# Altium schematic symbol library ColdFire MCU.SchLib: 117 symbols (part 4 of 7)
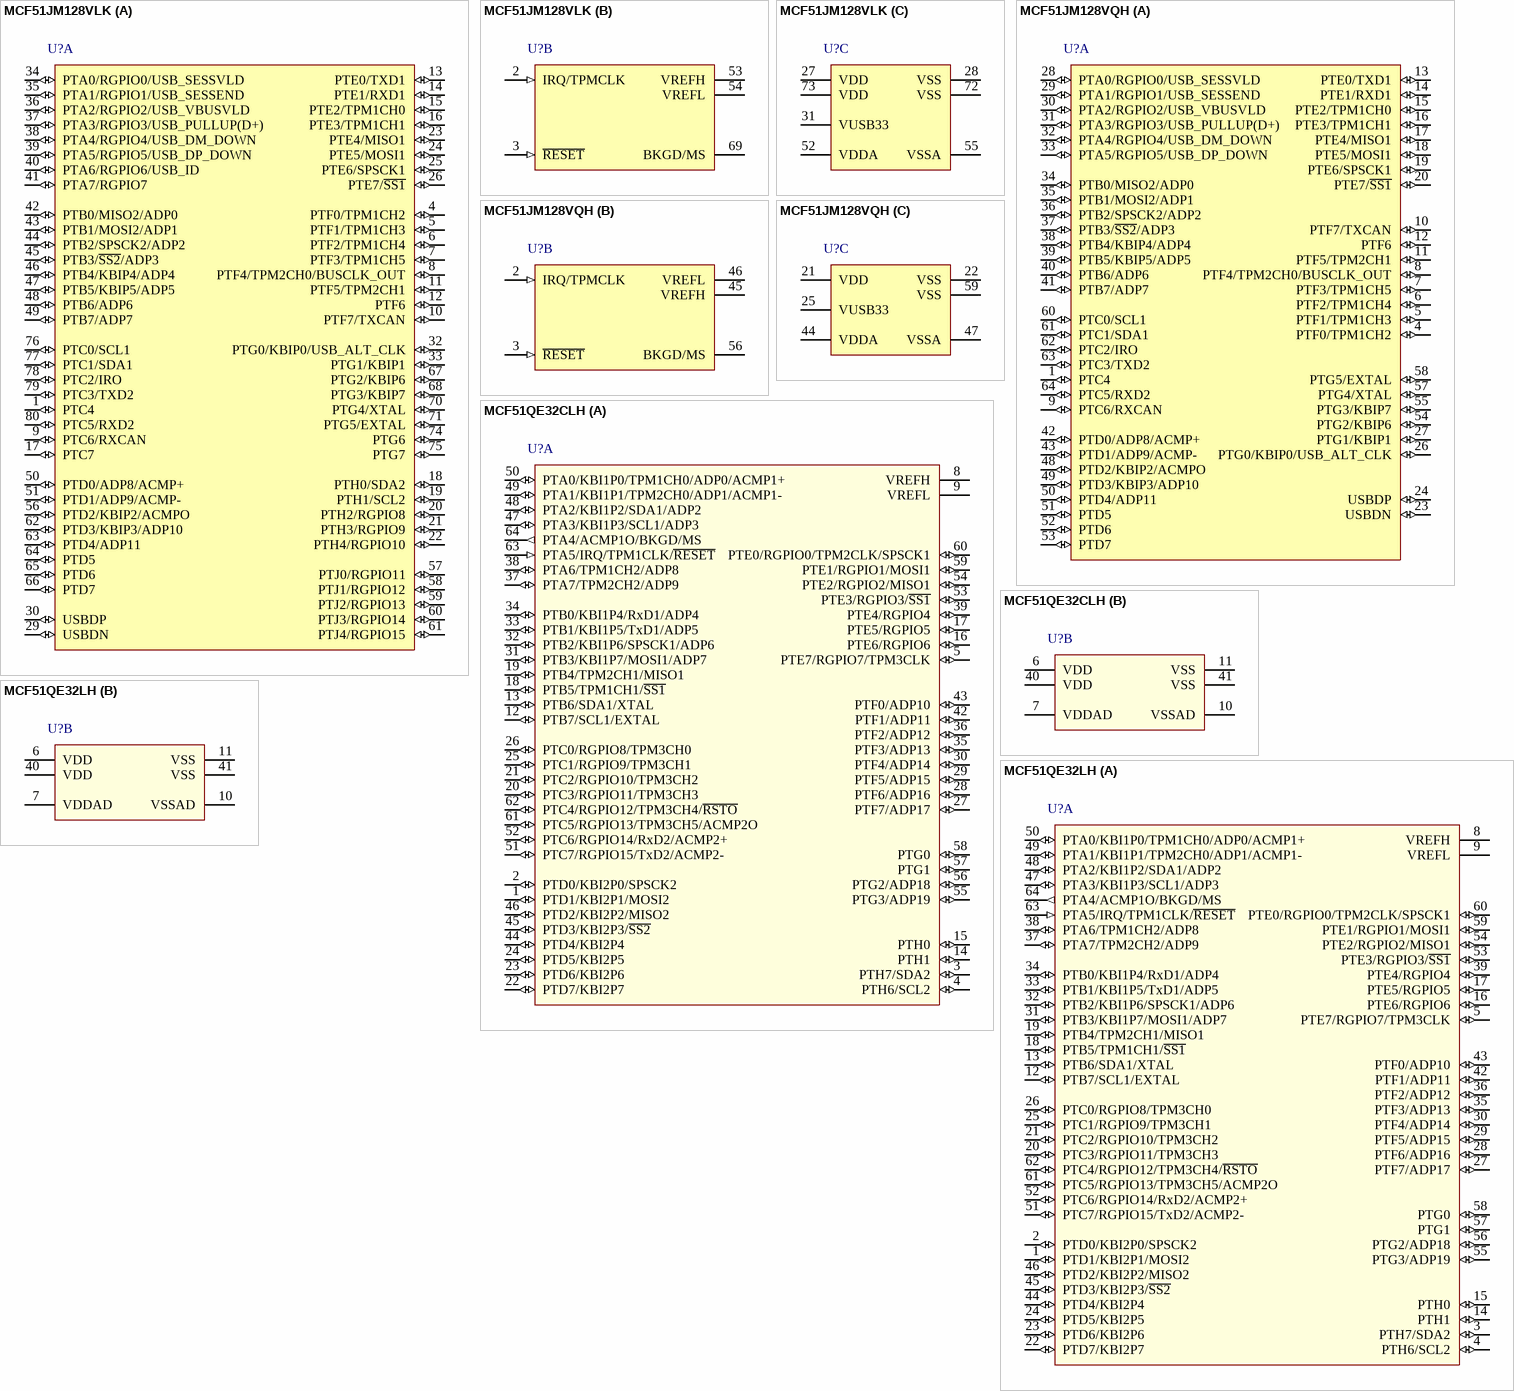
[diagram p34: symbols MCF51JM128VLK to MCF51QE32LH]

## MCF51QE32LH
designator U?
MCF51QE32 ColdFire V1 Microcontroller, 32-Bit, 32KB Flash, 8KB RAM, 0°C to 70°C, 64-Pin LQFP; DatasheetVersion: rev7, Oct-2008; PackageVersion: rev6, Mar-2011; PackageReference: 840F-02; PackageDescription: 64-Pin Thin Quad Flat Pack, 10 x 10 mm Body, 0.5 mm Pitch; ComponentLink1Description: Manufacturer URL; ComponentLink1URL: http://www.freescale.com/; ComponentLink2Description: Datasheet; ComponentLink2URL: http://cache.freescale.com/files/32bit/doc/data_sheet/MCF51QE128.pdf?fpsp=1&WT_TYPE=Data%20Sheets&WT_VENDOR=FREESCALE&WT_FILE_FORMAT=pdf&WT_ASSET=Documentation
footprint 840F-02_N (Thin QFP, 64-Leads, Body 10x10mm, Pitch 0.5mm, IPC Medium Density)
footprint 840F-02_L (Thin QFP, 64-Leads, Body 10x10mm, Pitch 0.5mm, IPC High Density)
footprint 840F-02_M (Thin QFP, 64-Leads, Body 10x10mm, Pitch 0.5mm, IPC Low Density)
part A pins: 1 PTD1/KBI2P1/MOSI2 (io), 2 PTD0/KBI2P0/SPSCK2 (io), 3 PTH7/SDA2 (io), 4 PTH6/SCL2 (io), 5 PTE7/RGPIO7/TPM3CLK (io), 8 VREFH, 9 VREFL, 12 PTB7/SCL1/EXTAL (io), 13 PTB6/SDA1/XTAL (io), 14 PTH1 (io), 15 PTH0 (io), 16 PTE6/RGPIO6 (io), 17 PTE5/RGPIO5 (io), 18 PTB5/TPM1CH1/~{SS1} (io), 19 PTB4/TPM2CH1/MISO1 (io), 20 PTC3/RGPIO11/TPM3CH3 (io), 21 PTC2/RGPIO10/TPM3CH2 (io), 22 PTD7/KBI2P7 (io), 23 PTD6/KBI2P6 (io), 24 PTD5/KBI2P5 (io), 25 PTC1/RGPIO9/TPM3CH1 (io), 26 PTC0/RGPIO8/TPM3CH0 (io), 27 PTF7/ADP17 (io), 28 PTF6/ADP16 (io), 29 PTF5/ADP15 (io), 30 PTF4/ADP14 (io), 31 PTB3/KBI1P7/MOSI1/ADP7 (io), 32 PTB2/KBI1P6/SPSCK1/ADP6 (io), 33 PTB1/KBI1P5/TxD1/ADP5 (io), 34 PTB0/KBI1P4/RxD1/ADP4 (io), 35 PTF3/ADP13 (io), 36 PTF2/ADP12 (io), 37 PTA7/TPM2CH2/ADP9 (io), 38 PTA6/TPM1CH2/ADP8 (io), 39 PTE4/RGPIO4 (io), 42 PTF1/ADP11 (io), 43 PTF0/ADP10 (io), 44 PTD4/KBI2P4 (io), 45 PTD3/KBI2P3/~{SS2} (io), 46 PTD2/KBI2P2/MISO2 (io), 47 PTA3/KBI1P3/SCL1/ADP3 (io), 48 PTA2/KBI1P2/SDA1/ADP2 (io), 49 PTA1/KBI1P1/TPM2CH0/ADP1/ACMP1- (io), 50 PTA0/KBI1P0/TPM1CH0/ADP0/ACMP1+ (io), 51 PTC7/RGPIO15/TxD2/ACMP2- (io), 52 PTC6/RGPIO14/RxD2/ACMP2+ (io), 53 PTE3/RGPIO3/~{SS1} (io), 54 PTE2/RGPIO2/MISO1 (io), 55 PTG3/ADP19 (io), 56 PTG2/ADP18 (io), 57 PTG1 (io), 58 PTG0 (io), 59 PTE1/RGPIO1/MOSI1 (io), 60 PTE0/RGPIO0/TPM2CLK/SPSCK1 (io), 61 PTC5/RGPIO13/TPM3CH5/ACMP2O (io), 62 PTC4/RGPIO12/TPM3CH4/~{RSTO} (io), 63 PTA5/IRQ/TPM1CLK/~{RESET} (in), 64 PTA4/ACMP1O/BKGD/MS (out)
part B pins: 6 VDD (power), 7 VDDAD (power), 10 VSSAD (power), 11 VSS (power), 40 VDD (power), 41 VSS (power)

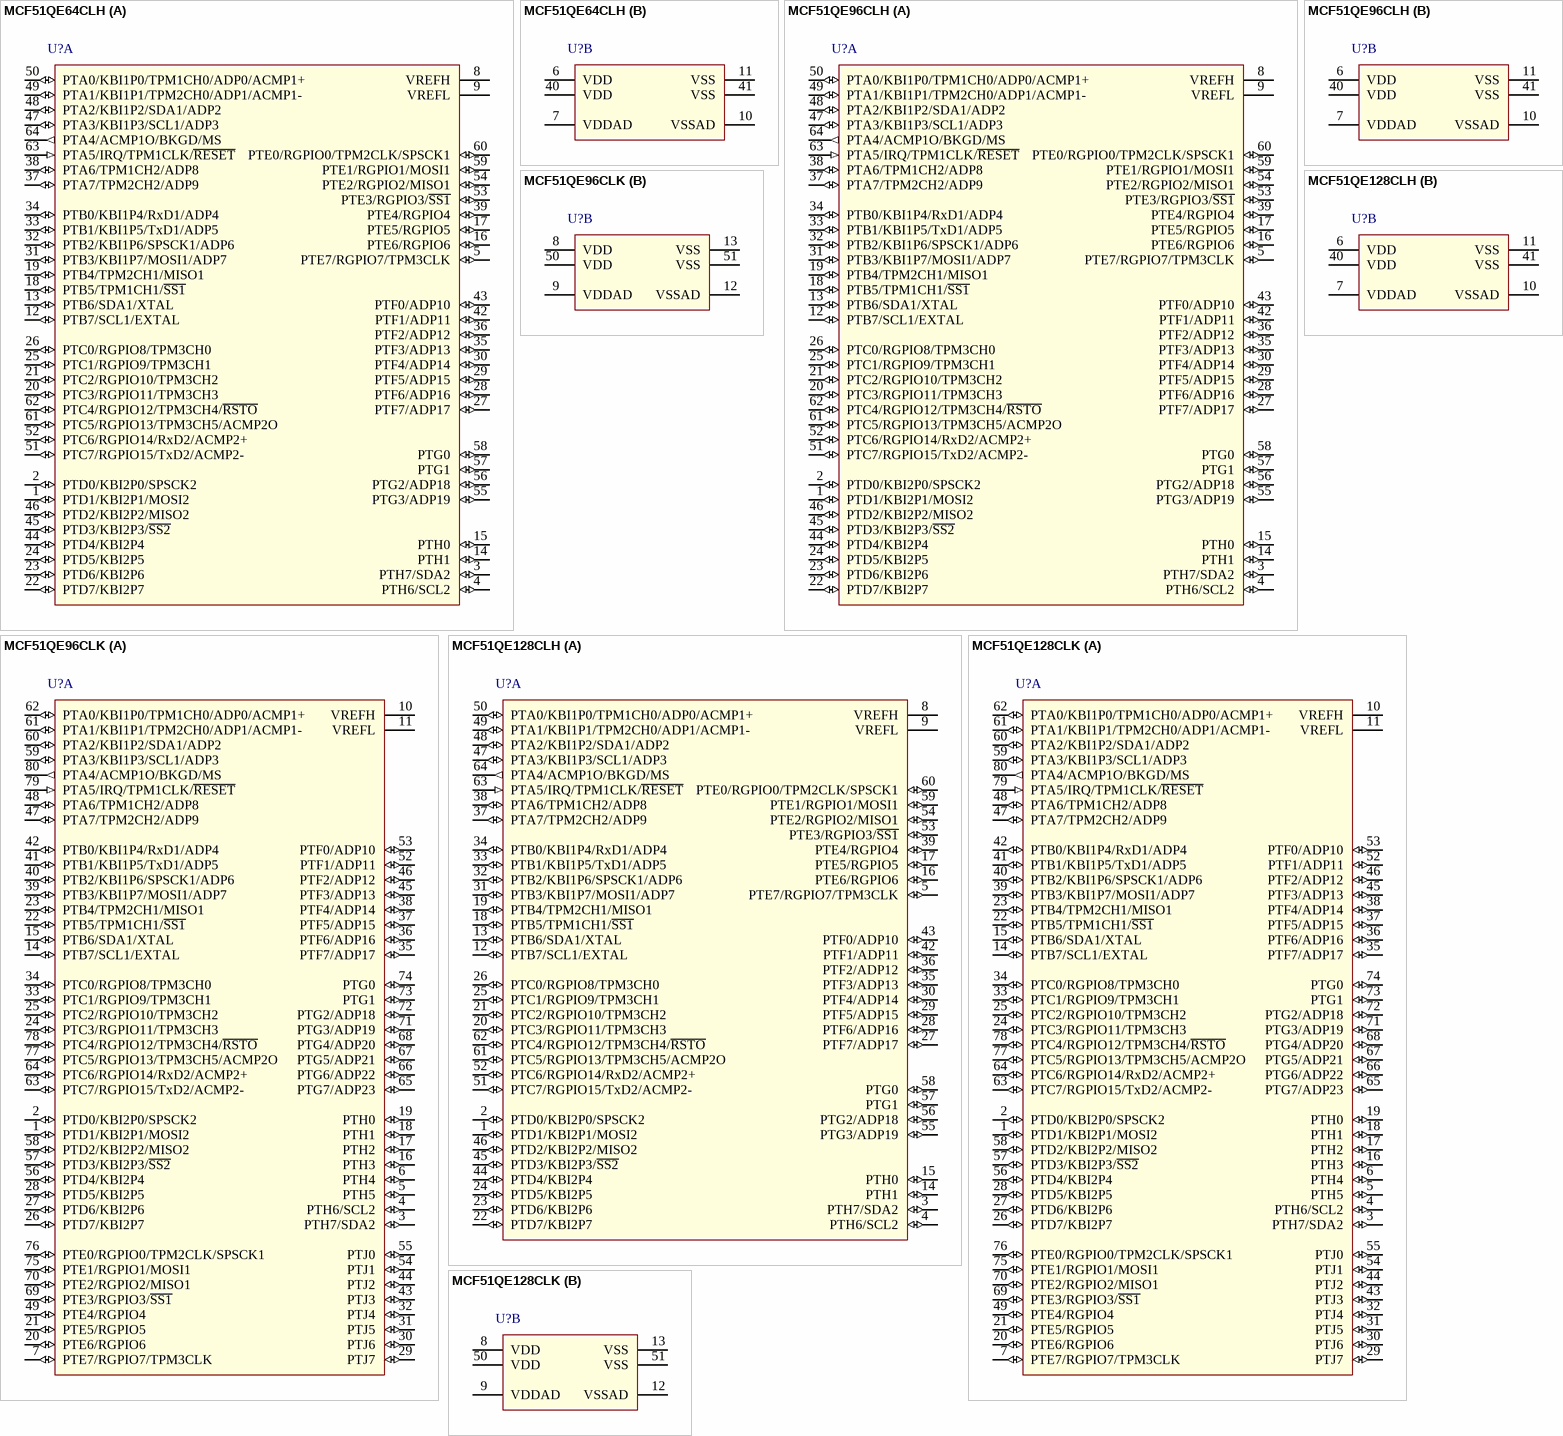
[diagram p14: symbols MCF51QE64CLH to MCF51QE128CLK]

## MCF51QE64CLH
designator U?
MCF51QE64 ColdFire V1 Microcontroller, 32-Bit, 64KB Flash, 8KB RAM, -40°C to 85°C, 64-Pin LQFP; DatasheetVersion: rev7, Oct-2008; PackageVersion: rev6, Mar-2011; PackageReference: 840F-02; PackageDescription: 64-Pin Thin Quad Flat Pack, 10 x 10 mm Body, 0.5 mm Pitch; ComponentLink1Description: Manufacturer URL; ComponentLink1URL: http://www.freescale.com/; ComponentLink2Description: Datasheet; ComponentLink2URL: http://cache.freescale.com/files/32bit/doc/data_sheet/MCF51QE128.pdf?fpsp=1&WT_TYPE=Data%20Sheets&WT_VENDOR=FREESCALE&WT_FILE_FORMAT=pdf&WT_ASSET=Documentation
footprint 840F-02_N (Thin QFP, 64-Leads, Body 10x10mm, Pitch 0.5mm, IPC Medium Density)
footprint 840F-02_L (Thin QFP, 64-Leads, Body 10x10mm, Pitch 0.5mm, IPC High Density)
footprint 840F-02_M (Thin QFP, 64-Leads, Body 10x10mm, Pitch 0.5mm, IPC Low Density)
part A pins: 1 PTD1/KBI2P1/MOSI2 (io), 2 PTD0/KBI2P0/SPSCK2 (io), 3 PTH7/SDA2 (io), 4 PTH6/SCL2 (io), 5 PTE7/RGPIO7/TPM3CLK (io), 8 VREFH, 9 VREFL, 12 PTB7/SCL1/EXTAL (io), 13 PTB6/SDA1/XTAL (io), 14 PTH1 (io), 15 PTH0 (io), 16 PTE6/RGPIO6 (io), 17 PTE5/RGPIO5 (io), 18 PTB5/TPM1CH1/~{SS1} (io), 19 PTB4/TPM2CH1/MISO1 (io), 20 PTC3/RGPIO11/TPM3CH3 (io), 21 PTC2/RGPIO10/TPM3CH2 (io), 22 PTD7/KBI2P7 (io), 23 PTD6/KBI2P6 (io), 24 PTD5/KBI2P5 (io), 25 PTC1/RGPIO9/TPM3CH1 (io), 26 PTC0/RGPIO8/TPM3CH0 (io), 27 PTF7/ADP17 (io), 28 PTF6/ADP16 (io), 29 PTF5/ADP15 (io), 30 PTF4/ADP14 (io), 31 PTB3/KBI1P7/MOSI1/ADP7 (io), 32 PTB2/KBI1P6/SPSCK1/ADP6 (io), 33 PTB1/KBI1P5/TxD1/ADP5 (io), 34 PTB0/KBI1P4/RxD1/ADP4 (io), 35 PTF3/ADP13 (io), 36 PTF2/ADP12 (io), 37 PTA7/TPM2CH2/ADP9 (io), 38 PTA6/TPM1CH2/ADP8 (io), 39 PTE4/RGPIO4 (io), 42 PTF1/ADP11 (io), 43 PTF0/ADP10 (io), 44 PTD4/KBI2P4 (io), 45 PTD3/KBI2P3/~{SS2} (io), 46 PTD2/KBI2P2/MISO2 (io), 47 PTA3/KBI1P3/SCL1/ADP3 (io), 48 PTA2/KBI1P2/SDA1/ADP2 (io), 49 PTA1/KBI1P1/TPM2CH0/ADP1/ACMP1- (io), 50 PTA0/KBI1P0/TPM1CH0/ADP0/ACMP1+ (io), 51 PTC7/RGPIO15/TxD2/ACMP2- (io), 52 PTC6/RGPIO14/RxD2/ACMP2+ (io), 53 PTE3/RGPIO3/~{SS1} (io), 54 PTE2/RGPIO2/MISO1 (io), 55 PTG3/ADP19 (io), 56 PTG2/ADP18 (io), 57 PTG1 (io), 58 PTG0 (io), 59 PTE1/RGPIO1/MOSI1 (io), 60 PTE0/RGPIO0/TPM2CLK/SPSCK1 (io), 61 PTC5/RGPIO13/TPM3CH5/ACMP2O (io), 62 PTC4/RGPIO12/TPM3CH4/~{RSTO} (io), 63 PTA5/IRQ/TPM1CLK/~{RESET} (in), 64 PTA4/ACMP1O/BKGD/MS (out)
part B pins: 6 VDD (power), 7 VDDAD (power), 10 VSSAD (power), 11 VSS (power), 40 VDD (power), 41 VSS (power)

## MCF51QE96CLH
designator U?
MCF51QE96 ColdFire V1 Microcontroller, 32-Bit, 96KB Flash, 8KB RAM, -40°C to 85°C, 64-Pin LQFP; DatasheetVersion: rev7, Oct-2008; PackageVersion: rev6, Mar-2011; PackageReference: 840F-02; PackageDescription: 64-Pin Thin Quad Flat Pack, 10 x 10 mm Body, 0.5 mm Pitch; ComponentLink1Description: Manufacturer URL; ComponentLink1URL: http://www.freescale.com/; ComponentLink2Description: Datasheet; ComponentLink2URL: http://cache.freescale.com/files/32bit/doc/data_sheet/MCF51QE128.pdf?fpsp=1&WT_TYPE=Data%20Sheets&WT_VENDOR=FREESCALE&WT_FILE_FORMAT=pdf&WT_ASSET=Documentation
footprint 840F-02_N (Thin QFP, 64-Leads, Body 10x10mm, Pitch 0.5mm, IPC Medium Density)
footprint 840F-02_L (Thin QFP, 64-Leads, Body 10x10mm, Pitch 0.5mm, IPC High Density)
footprint 840F-02_M (Thin QFP, 64-Leads, Body 10x10mm, Pitch 0.5mm, IPC Low Density)
part A pins: 1 PTD1/KBI2P1/MOSI2 (io), 2 PTD0/KBI2P0/SPSCK2 (io), 3 PTH7/SDA2 (io), 4 PTH6/SCL2 (io), 5 PTE7/RGPIO7/TPM3CLK (io), 8 VREFH, 9 VREFL, 12 PTB7/SCL1/EXTAL (io), 13 PTB6/SDA1/XTAL (io), 14 PTH1 (io), 15 PTH0 (io), 16 PTE6/RGPIO6 (io), 17 PTE5/RGPIO5 (io), 18 PTB5/TPM1CH1/~{SS1} (io), 19 PTB4/TPM2CH1/MISO1 (io), 20 PTC3/RGPIO11/TPM3CH3 (io), 21 PTC2/RGPIO10/TPM3CH2 (io), 22 PTD7/KBI2P7 (io), 23 PTD6/KBI2P6 (io), 24 PTD5/KBI2P5 (io), 25 PTC1/RGPIO9/TPM3CH1 (io), 26 PTC0/RGPIO8/TPM3CH0 (io), 27 PTF7/ADP17 (io), 28 PTF6/ADP16 (io), 29 PTF5/ADP15 (io), 30 PTF4/ADP14 (io), 31 PTB3/KBI1P7/MOSI1/ADP7 (io), 32 PTB2/KBI1P6/SPSCK1/ADP6 (io), 33 PTB1/KBI1P5/TxD1/ADP5 (io), 34 PTB0/KBI1P4/RxD1/ADP4 (io), 35 PTF3/ADP13 (io), 36 PTF2/ADP12 (io), 37 PTA7/TPM2CH2/ADP9 (io), 38 PTA6/TPM1CH2/ADP8 (io), 39 PTE4/RGPIO4 (io), 42 PTF1/ADP11 (io), 43 PTF0/ADP10 (io), 44 PTD4/KBI2P4 (io), 45 PTD3/KBI2P3/~{SS2} (io), 46 PTD2/KBI2P2/MISO2 (io), 47 PTA3/KBI1P3/SCL1/ADP3 (io), 48 PTA2/KBI1P2/SDA1/ADP2 (io), 49 PTA1/KBI1P1/TPM2CH0/ADP1/ACMP1- (io), 50 PTA0/KBI1P0/TPM1CH0/ADP0/ACMP1+ (io), 51 PTC7/RGPIO15/TxD2/ACMP2- (io), 52 PTC6/RGPIO14/RxD2/ACMP2+ (io), 53 PTE3/RGPIO3/~{SS1} (io), 54 PTE2/RGPIO2/MISO1 (io), 55 PTG3/ADP19 (io), 56 PTG2/ADP18 (io), 57 PTG1 (io), 58 PTG0 (io), 59 PTE1/RGPIO1/MOSI1 (io), 60 PTE0/RGPIO0/TPM2CLK/SPSCK1 (io), 61 PTC5/RGPIO13/TPM3CH5/ACMP2O (io), 62 PTC4/RGPIO12/TPM3CH4/~{RSTO} (io), 63 PTA5/IRQ/TPM1CLK/~{RESET} (in), 64 PTA4/ACMP1O/BKGD/MS (out)
part B pins: 6 VDD (power), 7 VDDAD (power), 10 VSSAD (power), 11 VSS (power), 40 VDD (power), 41 VSS (power)

## MCF51QE96CLK
designator U?
MCF51QE96 ColdFire V1 Microcontroller, 32-Bit, 96KB Flash, 8KB RAM, -40°C to 85°C, 80-Pin LQFP; DatasheetVersion: rev7, Oct-2008; PackageVersion: 21/09/1995; PackageReference: 917A-02; PackageDescription: 80-Pin Thin Quad Flat Pack 0.65 mm Pitch; ComponentLink1Description: Manufacturer URL; ComponentLink1URL: http://www.freescale.com/; ComponentLink2Description: Datasheet; ComponentLink2URL: http://cache.freescale.com/files/32bit/doc/data_sheet/MCF51QE128.pdf?fpsp=1&WT_TYPE=Data%20Sheets&WT_VENDOR=FREESCALE&WT_FILE_FORMAT=pdf&WT_ASSET=Documentation
footprint 917A-02_N (Thin QFP, 80-Leads, Body 14 x 14mm, Pitch 0.65mm, IPC Medium Density)
footprint 917A-02_L (Thin QFP, 80-Leads, Body 14 x 14mm, Pitch 0.65mm, IPC High Density)
footprint 917A-02_M (Thin QFP, 80-Leads, Body 14 x 14mm, Pitch 0.65mm, IPC Low Density)
part A pins: 1 PTD1/KBI2P1/MOSI2 (io), 2 PTD0/KBI2P0/SPSCK2 (io), 3 PTH7/SDA2 (io), 4 PTH6/SCL2 (io), 5 PTH5 (io), 6 PTH4 (io), 7 PTE7/RGPIO7/TPM3CLK (io), 10 VREFH, 11 VREFL, 14 PTB7/SCL1/EXTAL (io), 15 PTB6/SDA1/XTAL (io), 16 PTH3 (io), 17 PTH2 (io), 18 PTH1 (io), 19 PTH0 (io), 20 PTE6/RGPIO6 (io), 21 PTE5/RGPIO5 (io), 22 PTB5/TPM1CH1/~{SS1} (io), 23 PTB4/TPM2CH1/MISO1 (io), 24 PTC3/RGPIO11/TPM3CH3 (io), 25 PTC2/RGPIO10/TPM3CH2 (io), 26 PTD7/KBI2P7 (io), 27 PTD6/KBI2P6 (io), 28 PTD5/KBI2P5 (io), 29 PTJ7 (io), 30 PTJ6 (io), 31 PTJ5 (io), 32 PTJ4 (io), 33 PTC1/RGPIO9/TPM3CH1 (io), 34 PTC0/RGPIO8/TPM3CH0 (io), 35 PTF7/ADP17 (io), 36 PTF6/ADP16 (io), 37 PTF5/ADP15 (io), 38 PTF4/ADP14 (io), 39 PTB3/KBI1P7/MOSI1/ADP7 (io), 40 PTB2/KBI1P6/SPSCK1/ADP6 (io), 41 PTB1/KBI1P5/TxD1/ADP5 (io), 42 PTB0/KBI1P4/RxD1/ADP4 (io), 43 PTJ3 (io), 44 PTJ2 (io), 45 PTF3/ADP13 (io), 46 PTF2/ADP12 (io), 47 PTA7/TPM2CH2/ADP9 (io), 48 PTA6/TPM1CH2/ADP8 (io), 49 PTE4/RGPIO4 (io), 52 PTF1/ADP11 (io), 53 PTF0/ADP10 (io), 54 PTJ1 (io), 55 PTJ0 (io), 56 PTD4/KBI2P4 (io), 57 PTD3/KBI2P3/~{SS2} (io), 58 PTD2/KBI2P2/MISO2 (io), 59 PTA3/KBI1P3/SCL1/ADP3 (io), 60 PTA2/KBI1P2/SDA1/ADP2 (io), 61 PTA1/KBI1P1/TPM2CH0/ADP1/ACMP1- (io), 62 PTA0/KBI1P0/TPM1CH0/ADP0/ACMP1+ (io), 63 PTC7/RGPIO15/TxD2/ACMP2- (io), 64 PTC6/RGPIO14/RxD2/ACMP2+ (io), 65 PTG7/ADP23 (io), 66 PTG6/ADP22 (io), 67 PTG5/ADP21 (io), 68 PTG4/ADP20 (io), 69 PTE3/RGPIO3/~{SS1} (io), 70 PTE2/RGPIO2/MISO1 (io), 71 PTG3/ADP19 (io), 72 PTG2/ADP18 (io), 73 PTG1 (io), 74 PTG0 (io), 75 PTE1/RGPIO1/MOSI1 (io), 76 PTE0/RGPIO0/TPM2CLK/SPSCK1 (io), 77 PTC5/RGPIO13/TPM3CH5/ACMP2O (io), 78 PTC4/RGPIO12/TPM3CH4/~{RSTO} (io), 79 PTA5/IRQ/TPM1CLK/~{RESET} (in), 80 PTA4/ACMP1O/BKGD/MS (out)
part B pins: 8 VDD (power), 9 VDDAD (power), 12 VSSAD (power), 13 VSS (power), 50 VDD (power), 51 VSS (power)

## MCF51QE128CLH
designator U?
MCF51QE128 ColdFire V1 Microcontroller, 32-Bit, 128KB Flash, 8KB RAM, -40°C to 85°C, 64-Pin LQFP; DatasheetVersion: rev7, Oct-2008; PackageVersion: rev6, Mar-2011; PackageReference: 840F-02; PackageDescription: 64-Pin Thin Quad Flat Pack, 10 x 10 mm Body, 0.5 mm Pitch; ComponentLink1Description: Manufacturer URL; ComponentLink1URL: http://www.freescale.com/; ComponentLink2Description: Datasheet; ComponentLink2URL: http://cache.freescale.com/files/32bit/doc/data_sheet/MCF51QE128.pdf?fpsp=1&WT_TYPE=Data%20Sheets&WT_VENDOR=FREESCALE&WT_FILE_FORMAT=pdf&WT_ASSET=Documentation
footprint 840F-02_N (Thin QFP, 64-Leads, Body 10x10mm, Pitch 0.5mm, IPC Medium Density)
footprint 840F-02_L (Thin QFP, 64-Leads, Body 10x10mm, Pitch 0.5mm, IPC High Density)
footprint 840F-02_M (Thin QFP, 64-Leads, Body 10x10mm, Pitch 0.5mm, IPC Low Density)
part A pins: 1 PTD1/KBI2P1/MOSI2 (io), 2 PTD0/KBI2P0/SPSCK2 (io), 3 PTH7/SDA2 (io), 4 PTH6/SCL2 (io), 5 PTE7/RGPIO7/TPM3CLK (io), 8 VREFH, 9 VREFL, 12 PTB7/SCL1/EXTAL (io), 13 PTB6/SDA1/XTAL (io), 14 PTH1 (io), 15 PTH0 (io), 16 PTE6/RGPIO6 (io), 17 PTE5/RGPIO5 (io), 18 PTB5/TPM1CH1/~{SS1} (io), 19 PTB4/TPM2CH1/MISO1 (io), 20 PTC3/RGPIO11/TPM3CH3 (io), 21 PTC2/RGPIO10/TPM3CH2 (io), 22 PTD7/KBI2P7 (io), 23 PTD6/KBI2P6 (io), 24 PTD5/KBI2P5 (io), 25 PTC1/RGPIO9/TPM3CH1 (io), 26 PTC0/RGPIO8/TPM3CH0 (io), 27 PTF7/ADP17 (io), 28 PTF6/ADP16 (io), 29 PTF5/ADP15 (io), 30 PTF4/ADP14 (io), 31 PTB3/KBI1P7/MOSI1/ADP7 (io), 32 PTB2/KBI1P6/SPSCK1/ADP6 (io), 33 PTB1/KBI1P5/TxD1/ADP5 (io), 34 PTB0/KBI1P4/RxD1/ADP4 (io), 35 PTF3/ADP13 (io), 36 PTF2/ADP12 (io), 37 PTA7/TPM2CH2/ADP9 (io), 38 PTA6/TPM1CH2/ADP8 (io), 39 PTE4/RGPIO4 (io), 42 PTF1/ADP11 (io), 43 PTF0/ADP10 (io), 44 PTD4/KBI2P4 (io), 45 PTD3/KBI2P3/~{SS2} (io), 46 PTD2/KBI2P2/MISO2 (io), 47 PTA3/KBI1P3/SCL1/ADP3 (io), 48 PTA2/KBI1P2/SDA1/ADP2 (io), 49 PTA1/KBI1P1/TPM2CH0/ADP1/ACMP1- (io), 50 PTA0/KBI1P0/TPM1CH0/ADP0/ACMP1+ (io), 51 PTC7/RGPIO15/TxD2/ACMP2- (io), 52 PTC6/RGPIO14/RxD2/ACMP2+ (io), 53 PTE3/RGPIO3/~{SS1} (io), 54 PTE2/RGPIO2/MISO1 (io), 55 PTG3/ADP19 (io), 56 PTG2/ADP18 (io), 57 PTG1 (io), 58 PTG0 (io), 59 PTE1/RGPIO1/MOSI1 (io), 60 PTE0/RGPIO0/TPM2CLK/SPSCK1 (io), 61 PTC5/RGPIO13/TPM3CH5/ACMP2O (io), 62 PTC4/RGPIO12/TPM3CH4/~{RSTO} (io), 63 PTA5/IRQ/TPM1CLK/~{RESET} (in), 64 PTA4/ACMP1O/BKGD/MS (out)
part B pins: 6 VDD (power), 7 VDDAD (power), 10 VSSAD (power), 11 VSS (power), 40 VDD (power), 41 VSS (power)

## MCF51QE128CLK
designator U?
MCF51QE128 ColdFire V1 Microcontroller, 32-Bit, 128KB Flash, 8KB RAM, -40°C to 85°C, 80-Pin LQFP; DatasheetVersion: rev7, Oct-2008; PackageVersion: 21/09/1995; PackageReference: 917A-02; PackageDescription: 80-Pin Thin Quad Flat Pack 0.65 mm Pitch; ComponentLink1Description: Manufacturer URL; ComponentLink1URL: http://www.freescale.com/; ComponentLink2Description: Datasheet; ComponentLink2URL: http://cache.freescale.com/files/32bit/doc/data_sheet/MCF51QE128.pdf?fpsp=1&WT_TYPE=Data%20Sheets&WT_VENDOR=FREESCALE&WT_FILE_FORMAT=pdf&WT_ASSET=Documentation
footprint 917A-02_N (Thin QFP, 80-Leads, Body 14 x 14mm, Pitch 0.65mm, IPC Medium Density)
footprint 917A-02_L (Thin QFP, 80-Leads, Body 14 x 14mm, Pitch 0.65mm, IPC High Density)
footprint 917A-02_M (Thin QFP, 80-Leads, Body 14 x 14mm, Pitch 0.65mm, IPC Low Density)
part A pins: 1 PTD1/KBI2P1/MOSI2 (io), 2 PTD0/KBI2P0/SPSCK2 (io), 3 PTH7/SDA2 (io), 4 PTH6/SCL2 (io), 5 PTH5 (io), 6 PTH4 (io), 7 PTE7/RGPIO7/TPM3CLK (io), 10 VREFH, 11 VREFL, 14 PTB7/SCL1/EXTAL (io), 15 PTB6/SDA1/XTAL (io), 16 PTH3 (io), 17 PTH2 (io), 18 PTH1 (io), 19 PTH0 (io), 20 PTE6/RGPIO6 (io), 21 PTE5/RGPIO5 (io), 22 PTB5/TPM1CH1/~{SS1} (io), 23 PTB4/TPM2CH1/MISO1 (io), 24 PTC3/RGPIO11/TPM3CH3 (io), 25 PTC2/RGPIO10/TPM3CH2 (io), 26 PTD7/KBI2P7 (io), 27 PTD6/KBI2P6 (io), 28 PTD5/KBI2P5 (io), 29 PTJ7 (io), 30 PTJ6 (io), 31 PTJ5 (io), 32 PTJ4 (io), 33 PTC1/RGPIO9/TPM3CH1 (io), 34 PTC0/RGPIO8/TPM3CH0 (io), 35 PTF7/ADP17 (io), 36 PTF6/ADP16 (io), 37 PTF5/ADP15 (io), 38 PTF4/ADP14 (io), 39 PTB3/KBI1P7/MOSI1/ADP7 (io), 40 PTB2/KBI1P6/SPSCK1/ADP6 (io), 41 PTB1/KBI1P5/TxD1/ADP5 (io), 42 PTB0/KBI1P4/RxD1/ADP4 (io), 43 PTJ3 (io), 44 PTJ2 (io), 45 PTF3/ADP13 (io), 46 PTF2/ADP12 (io), 47 PTA7/TPM2CH2/ADP9 (io), 48 PTA6/TPM1CH2/ADP8 (io), 49 PTE4/RGPIO4 (io), 52 PTF1/ADP11 (io), 53 PTF0/ADP10 (io), 54 PTJ1 (io), 55 PTJ0 (io), 56 PTD4/KBI2P4 (io), 57 PTD3/KBI2P3/~{SS2} (io), 58 PTD2/KBI2P2/MISO2 (io), 59 PTA3/KBI1P3/SCL1/ADP3 (io), 60 PTA2/KBI1P2/SDA1/ADP2 (io), 61 PTA1/KBI1P1/TPM2CH0/ADP1/ACMP1- (io), 62 PTA0/KBI1P0/TPM1CH0/ADP0/ACMP1+ (io), 63 PTC7/RGPIO15/TxD2/ACMP2- (io), 64 PTC6/RGPIO14/RxD2/ACMP2+ (io), 65 PTG7/ADP23 (io), 66 PTG6/ADP22 (io), 67 PTG5/ADP21 (io), 68 PTG4/ADP20 (io), 69 PTE3/RGPIO3/~{SS1} (io), 70 PTE2/RGPIO2/MISO1 (io), 71 PTG3/ADP19 (io), 72 PTG2/ADP18 (io), 73 PTG1 (io), 74 PTG0 (io), 75 PTE1/RGPIO1/MOSI1 (io), 76 PTE0/RGPIO0/TPM2CLK/SPSCK1 (io), 77 PTC5/RGPIO13/TPM3CH5/ACMP2O (io), 78 PTC4/RGPIO12/TPM3CH4/~{RSTO} (io), 79 PTA5/IRQ/TPM1CLK/~{RESET} (in), 80 PTA4/ACMP1O/BKGD/MS (out)
part B pins: 8 VDD (power), 9 VDDAD (power), 12 VSSAD (power), 13 VSS (power), 50 VDD (power), 51 VSS (power)

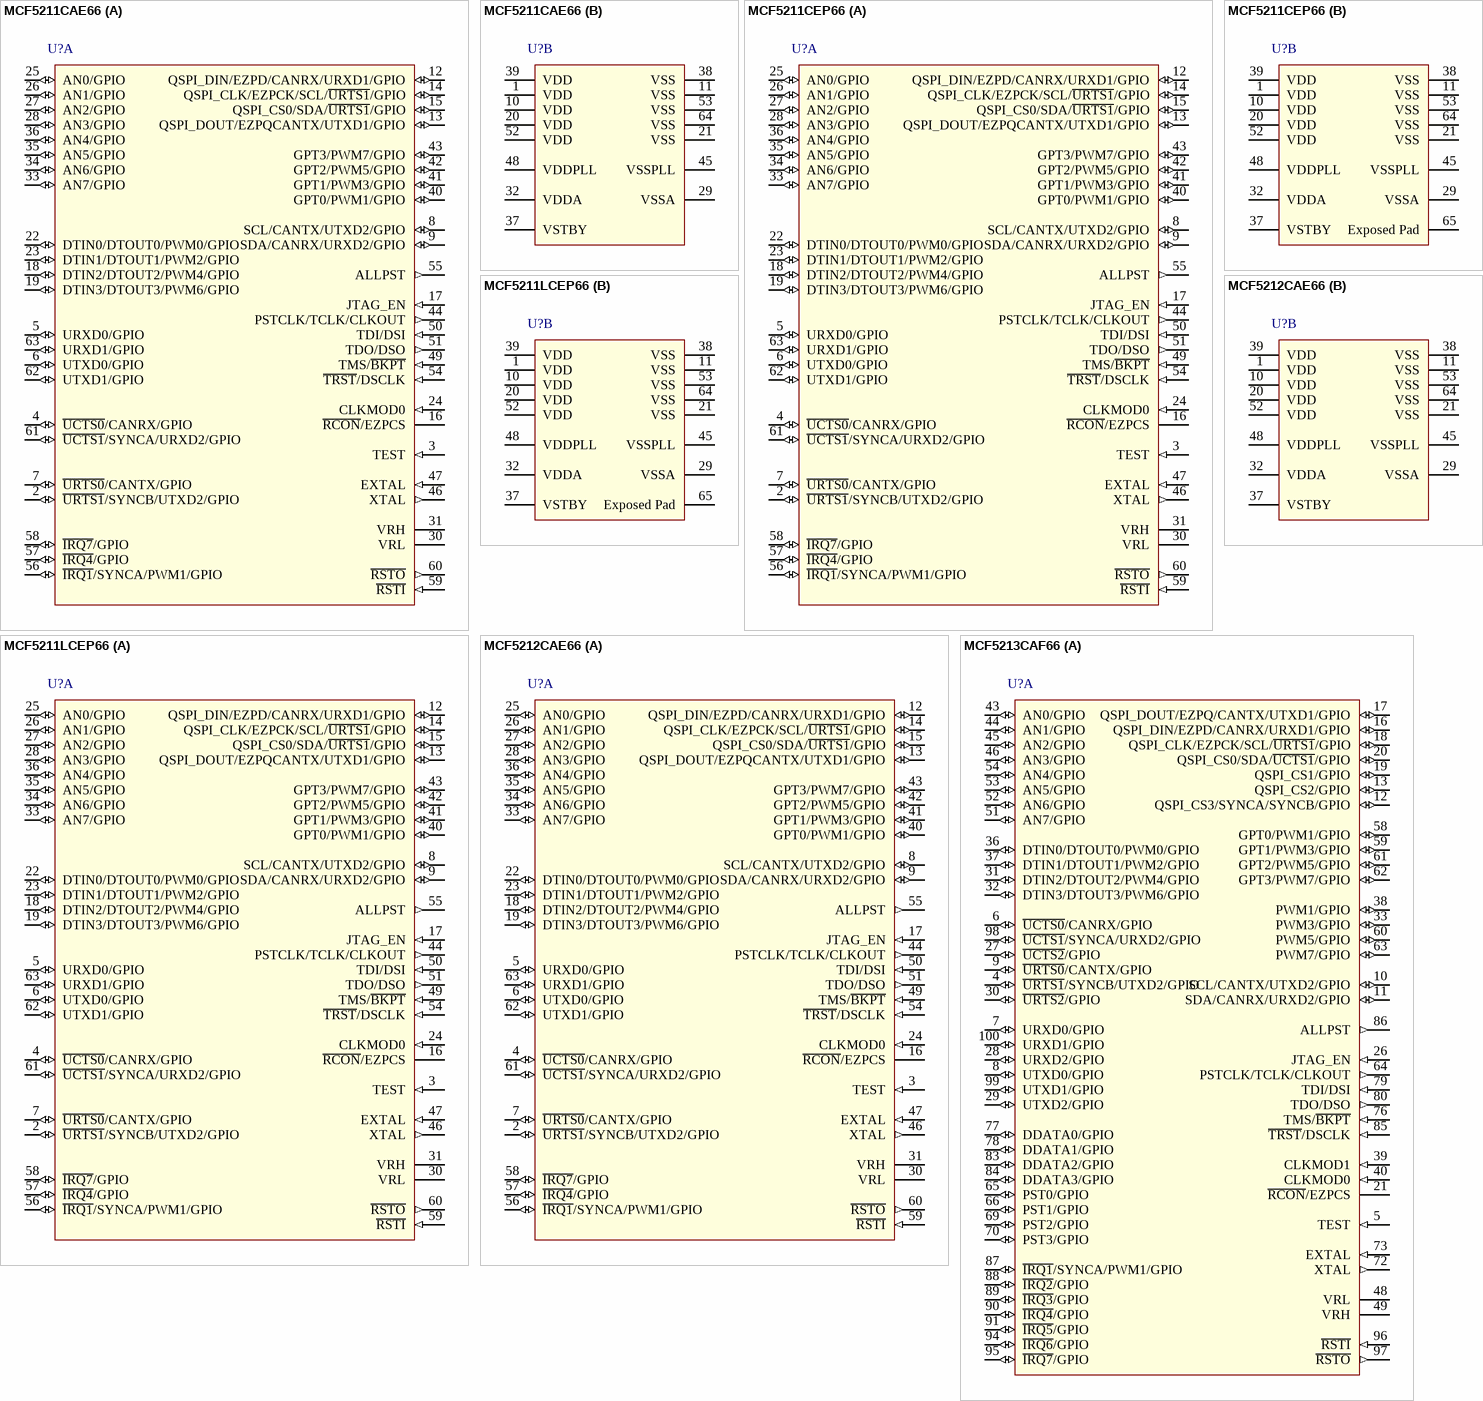
[diagram p15: symbols MCF5211CAE66 to MCF5213CAF66]

## MCF5211CAE66
designator U?
MCF5211 ColdFire V2 Microcontroller, 32-Bit, 66MHz, 128KB Flash, 16KB SRAM, 64-Pin LQFP; DatasheetVersion: rev4, Jun-2010; PackageVersion: rev6, Mar-2011; PackageReference: 840F-02; PackageDescription: 64-Pin Thin Quad Flat Pack, 10 x 10 mm Body, 0.5 mm Pitch; ComponentLink1Description: Manufacturer URL; ComponentLink1URL: http://www.freescale.com/; ComponentLink2Description: Datasheet; ComponentLink2URL: http://cache.freescale.com/files/32bit/doc/data_sheet/MCF5213EC.pdf?fpsp=1&WT_TYPE=Data%20Sheets&WT_VENDOR=FREESCALE&WT_FILE_FORMAT=pdf&WT_ASSET=Documentation
footprint 840F-02_N (Thin QFP, 64-Leads, Body 10x10mm, Pitch 0.5mm, IPC Medium Density)
footprint 840F-02_L (Thin QFP, 64-Leads, Body 10x10mm, Pitch 0.5mm, IPC High Density)
footprint 840F-02_M (Thin QFP, 64-Leads, Body 10x10mm, Pitch 0.5mm, IPC Low Density)
part A pins: 2 ~{URTS1}/SYNCB/UTXD2/GPIO (io), 3 TEST (in), 4 ~{UCTS0}/CANRX/GPIO (io), 5 URXD0/GPIO (io), 6 UTXD0/GPIO (io), 7 ~{URTS0}/CANTX/GPIO (io), 8 SCL/CANTX/UTXD2/GPIO (io), 9 SDA/CANRX/URXD2/GPIO (io), 12 QSPI_DIN/EZPD/CANRX/URXD1/GPIO (io), 13 QSPI_DOUT/EZPQCANTX/UTXD1/GPIO (io), 14 QSPI_CLK/EZPCK/SCL/~{URTS1}/GPIO (io), 15 QSPI_CS0/SDA/~{URTS1}/GPIO (io), 16 ~{RCON}/EZPCS, 17 JTAG_EN (in), 18 DTIN2/DTOUT2/PWM4/GPIO (io), 19 DTIN3/DTOUT3/PWM6/GPIO (io), 22 DTIN0/DTOUT0/PWM0/GPIO (io), 23 DTIN1/DTOUT1/PWM2/GPIO (io), 24 CLKMOD0 (in), 25 AN0/GPIO (io), 26 AN1/GPIO (io), 27 AN2/GPIO (io), 28 AN3/GPIO (io), 30 VRL, 31 VRH, 33 AN7/GPIO (io), 34 AN6/GPIO (io), 35 AN5/GPIO (io), 36 AN4/GPIO (io), 40 GPT0/PWM1/GPIO (io), 41 GPT1/PWM3/GPIO (io), 42 GPT2/PWM5/GPIO (io), 43 GPT3/PWM7/GPIO (io), 44 PSTCLK/TCLK/CLKOUT (out), 46 XTAL (out), 47 EXTAL (in), 49 TMS/~{BKPT} (in), 50 TDI/DSI (in), 51 TDO/DSO (out), 54 ~{TRST}/DSCLK (in), 55 ALLPST (out), 56 ~{IRQ1}/SYNCA/PWM1/GPIO (io), 57 ~{IRQ4}/GPIO (io), 58 ~{IRQ7}/GPIO (io), 59 ~{RSTI} (in), 60 ~{RSTO} (out), 61 ~{UCTS1}/SYNCA/URXD2/GPIO (io), 62 UTXD1/GPIO (io), 63 URXD1/GPIO (io)
part B pins: 1 VDD (power), 10 VDD (power), 11 VSS (power), 20 VDD (power), 21 VSS (power), 29 VSSA (power), 32 VDDA (power), 37 VSTBY (power), 38 VSS (power), 39 VDD (power), 45 VSSPLL (power), 48 VDDPLL (power), 52 VDD (power), 53 VSS (power), 64 VSS (power)

## MCF5211CEP66
designator U?
MCF5211 ColdFire V2 Microcontroller, FlexCAN, 32-Bit, 66MHz, 128KB Flash, 16KB SRAM, 64-Pin QFN; DatasheetVersion: rev4, Jun-2010; PackageVersion: revO; PackageReference: 1740-01; PackageDescription: 64-Pin Quad Flat No-Lead, 9 x 9 mm Body, 0.5 mm Pitch; Code_JEDEC: MO-220VMMD-3; ComponentLink1Description: Manufacturer URL; ComponentLink1URL: http://www.freescale.com/; ComponentLink2Description: Datasheet; ComponentLink2URL: http://cache.freescale.com/files/32bit/doc/data_sheet/MCF5213EC.pdf?fpsp=1&WT_TYPE=Data%20Sheets&WT_VENDOR=FREESCALE&WT_FILE_FORMAT=pdf&WT_ASSET=Documentation
footprint 1740-01_N (QFN, 64-Leads, Body 9x9mm, Pitch 0.5mm, Thermal Pad 6.1x6.1mm, IPC Medium Density)
footprint 1740-01_L (QFN, 64-Leads, Body 9x9mm, Pitch 0.5mm, Thermal Pad 6.1x6.1mm, IPC High Density)
footprint 1740-01_M (QFN, 64-Leads, Body 9x9mm, Pitch 0.5mm, Thermal Pad 6.1x6.1mm, IPC Low Density)
part A pins: 2 ~{URTS1}/SYNCB/UTXD2/GPIO (io), 3 TEST (in), 4 ~{UCTS0}/CANRX/GPIO (io), 5 URXD0/GPIO (io), 6 UTXD0/GPIO (io), 7 ~{URTS0}/CANTX/GPIO (io), 8 SCL/CANTX/UTXD2/GPIO (io), 9 SDA/CANRX/URXD2/GPIO (io), 12 QSPI_DIN/EZPD/CANRX/URXD1/GPIO (io), 13 QSPI_DOUT/EZPQCANTX/UTXD1/GPIO (io), 14 QSPI_CLK/EZPCK/SCL/~{URTS1}/GPIO (io), 15 QSPI_CS0/SDA/~{URTS1}/GPIO (io), 16 ~{RCON}/EZPCS, 17 JTAG_EN (in), 18 DTIN2/DTOUT2/PWM4/GPIO (io), 19 DTIN3/DTOUT3/PWM6/GPIO (io), 22 DTIN0/DTOUT0/PWM0/GPIO (io), 23 DTIN1/DTOUT1/PWM2/GPIO (io), 24 CLKMOD0 (in), 25 AN0/GPIO (io), 26 AN1/GPIO (io), 27 AN2/GPIO (io), 28 AN3/GPIO (io), 30 VRL, 31 VRH, 33 AN7/GPIO (io), 34 AN6/GPIO (io), 35 AN5/GPIO (io), 36 AN4/GPIO (io), 40 GPT0/PWM1/GPIO (io), 41 GPT1/PWM3/GPIO (io), 42 GPT2/PWM5/GPIO (io), 43 GPT3/PWM7/GPIO (io), 44 PSTCLK/TCLK/CLKOUT (out), 46 XTAL (out), 47 EXTAL (in), 49 TMS/~{BKPT} (in), 50 TDI/DSI (in), 51 TDO/DSO (out), 54 ~{TRST}/DSCLK (in), 55 ALLPST (out), 56 ~{IRQ1}/SYNCA/PWM1/GPIO (io), 57 ~{IRQ4}/GPIO (io), 58 ~{IRQ7}/GPIO (io), 59 ~{RSTI} (in), 60 ~{RSTO} (out), 61 ~{UCTS1}/SYNCA/URXD2/GPIO (io), 62 UTXD1/GPIO (io), 63 URXD1/GPIO (io)
part B pins: 1 VDD (power), 10 VDD (power), 11 VSS (power), 20 VDD (power), 21 VSS (power), 29 VSSA (power), 32 VDDA (power), 37 VSTBY (power), 38 VSS (power), 39 VDD (power), 45 VSSPLL (power), 48 VDDPLL (power), 52 VDD (power), 53 VSS (power), 64 VSS (power), 65 Exposed Pad (power)

## MCF5211LCEP66
designator U?
MCF5211 ColdFire V2 Microcontroller, 32-Bit, 66MHz, 128KB Flash, 16KB SRAM, 64-Pin QFN; DatasheetVersion: rev4, Jun-2010; PackageVersion: revO; PackageReference: 1740-01; PackageDescription: 64-Pin Quad Flat No-Lead, 9 x 9 mm Body, 0.5 mm Pitch; Code_JEDEC: MO-220VMMD-3; ComponentLink1Description: Manufacturer URL; ComponentLink1URL: http://www.freescale.com/; ComponentLink2Description: Datasheet; ComponentLink2URL: http://cache.freescale.com/files/32bit/doc/data_sheet/MCF5213EC.pdf?fpsp=1&WT_TYPE=Data%20Sheets&WT_VENDOR=FREESCALE&WT_FILE_FORMAT=pdf&WT_ASSET=Documentation
footprint 1740-01_N (QFN, 64-Leads, Body 9x9mm, Pitch 0.5mm, Thermal Pad 6.1x6.1mm, IPC Medium Density)
footprint 1740-01_L (QFN, 64-Leads, Body 9x9mm, Pitch 0.5mm, Thermal Pad 6.1x6.1mm, IPC High Density)
footprint 1740-01_M (QFN, 64-Leads, Body 9x9mm, Pitch 0.5mm, Thermal Pad 6.1x6.1mm, IPC Low Density)
part A pins: 2 ~{URTS1}/SYNCB/UTXD2/GPIO (io), 3 TEST (in), 4 ~{UCTS0}/CANRX/GPIO (io), 5 URXD0/GPIO (io), 6 UTXD0/GPIO (io), 7 ~{URTS0}/CANTX/GPIO (io), 8 SCL/CANTX/UTXD2/GPIO (io), 9 SDA/CANRX/URXD2/GPIO (io), 12 QSPI_DIN/EZPD/CANRX/URXD1/GPIO (io), 13 QSPI_DOUT/EZPQCANTX/UTXD1/GPIO (io), 14 QSPI_CLK/EZPCK/SCL/~{URTS1}/GPIO (io), 15 QSPI_CS0/SDA/~{URTS1}/GPIO (io), 16 ~{RCON}/EZPCS, 17 JTAG_EN (in), 18 DTIN2/DTOUT2/PWM4/GPIO (io), 19 DTIN3/DTOUT3/PWM6/GPIO (io), 22 DTIN0/DTOUT0/PWM0/GPIO (io), 23 DTIN1/DTOUT1/PWM2/GPIO (io), 24 CLKMOD0 (in), 25 AN0/GPIO (io), 26 AN1/GPIO (io), 27 AN2/GPIO (io), 28 AN3/GPIO (io), 30 VRL, 31 VRH, 33 AN7/GPIO (io), 34 AN6/GPIO (io), 35 AN5/GPIO (io), 36 AN4/GPIO (io), 40 GPT0/PWM1/GPIO (io), 41 GPT1/PWM3/GPIO (io), 42 GPT2/PWM5/GPIO (io), 43 GPT3/PWM7/GPIO (io), 44 PSTCLK/TCLK/CLKOUT (out), 46 XTAL (out), 47 EXTAL (in), 49 TMS/~{BKPT} (in), 50 TDI/DSI (in), 51 TDO/DSO (out), 54 ~{TRST}/DSCLK (in), 55 ALLPST (out), 56 ~{IRQ1}/SYNCA/PWM1/GPIO (io), 57 ~{IRQ4}/GPIO (io), 58 ~{IRQ7}/GPIO (io), 59 ~{RSTI} (in), 60 ~{RSTO} (out), 61 ~{UCTS1}/SYNCA/URXD2/GPIO (io), 62 UTXD1/GPIO (io), 63 URXD1/GPIO (io)
part B pins: 1 VDD (power), 10 VDD (power), 11 VSS (power), 20 VDD (power), 21 VSS (power), 29 VSSA (power), 32 VDDA (power), 37 VSTBY (power), 38 VSS (power), 39 VDD (power), 45 VSSPLL (power), 48 VDDPLL (power), 52 VDD (power), 53 VSS (power), 64 VSS (power), 65 Exposed Pad (power)

## MCF5212CAE66
designator U?
MCF5212 ColdFire V2 Microcontroller, 32-Bit, 66MHz, 256KB Flash, 32KB SRAM, 64-Pin LQFP; DatasheetVersion: rev4, Jun-2010; PackageVersion: rev6, Mar-2011; PackageReference: 840F-02; PackageDescription: 64-Pin Thin Quad Flat Pack, 10 x 10 mm Body, 0.5 mm Pitch; ComponentLink1Description: Manufacturer URL; ComponentLink1URL: http://www.freescale.com/; ComponentLink2Description: Datasheet; ComponentLink2URL: http://cache.freescale.com/files/32bit/doc/data_sheet/MCF5213EC.pdf?fpsp=1&WT_TYPE=Data%20Sheets&WT_VENDOR=FREESCALE&WT_FILE_FORMAT=pdf&WT_ASSET=Documentation
footprint 840F-02_N (Thin QFP, 64-Leads, Body 10x10mm, Pitch 0.5mm, IPC Medium Density)
footprint 840F-02_L (Thin QFP, 64-Leads, Body 10x10mm, Pitch 0.5mm, IPC High Density)
footprint 840F-02_M (Thin QFP, 64-Leads, Body 10x10mm, Pitch 0.5mm, IPC Low Density)
part A pins: 2 ~{URTS1}/SYNCB/UTXD2/GPIO (io), 3 TEST (in), 4 ~{UCTS0}/CANRX/GPIO (io), 5 URXD0/GPIO (io), 6 UTXD0/GPIO (io), 7 ~{URTS0}/CANTX/GPIO (io), 8 SCL/CANTX/UTXD2/GPIO (io), 9 SDA/CANRX/URXD2/GPIO (io), 12 QSPI_DIN/EZPD/CANRX/URXD1/GPIO (io), 13 QSPI_DOUT/EZPQCANTX/UTXD1/GPIO (io), 14 QSPI_CLK/EZPCK/SCL/~{URTS1}/GPIO (io), 15 QSPI_CS0/SDA/~{URTS1}/GPIO (io), 16 ~{RCON}/EZPCS, 17 JTAG_EN (in), 18 DTIN2/DTOUT2/PWM4/GPIO (io), 19 DTIN3/DTOUT3/PWM6/GPIO (io), 22 DTIN0/DTOUT0/PWM0/GPIO (io), 23 DTIN1/DTOUT1/PWM2/GPIO (io), 24 CLKMOD0 (in), 25 AN0/GPIO (io), 26 AN1/GPIO (io), 27 AN2/GPIO (io), 28 AN3/GPIO (io), 30 VRL, 31 VRH, 33 AN7/GPIO (io), 34 AN6/GPIO (io), 35 AN5/GPIO (io), 36 AN4/GPIO (io), 40 GPT0/PWM1/GPIO (io), 41 GPT1/PWM3/GPIO (io), 42 GPT2/PWM5/GPIO (io), 43 GPT3/PWM7/GPIO (io), 44 PSTCLK/TCLK/CLKOUT (out), 46 XTAL (out), 47 EXTAL (in), 49 TMS/~{BKPT} (in), 50 TDI/DSI (in), 51 TDO/DSO (out), 54 ~{TRST}/DSCLK (in), 55 ALLPST (out), 56 ~{IRQ1}/SYNCA/PWM1/GPIO (io), 57 ~{IRQ4}/GPIO (io), 58 ~{IRQ7}/GPIO (io), 59 ~{RSTI} (in), 60 ~{RSTO} (out), 61 ~{UCTS1}/SYNCA/URXD2/GPIO (io), 62 UTXD1/GPIO (io), 63 URXD1/GPIO (io)
part B pins: 1 VDD (power), 10 VDD (power), 11 VSS (power), 20 VDD (power), 21 VSS (power), 29 VSSA (power), 32 VDDA (power), 37 VSTBY (power), 38 VSS (power), 39 VDD (power), 45 VSSPLL (power), 48 VDDPLL (power), 52 VDD (power), 53 VSS (power), 64 VSS (power)

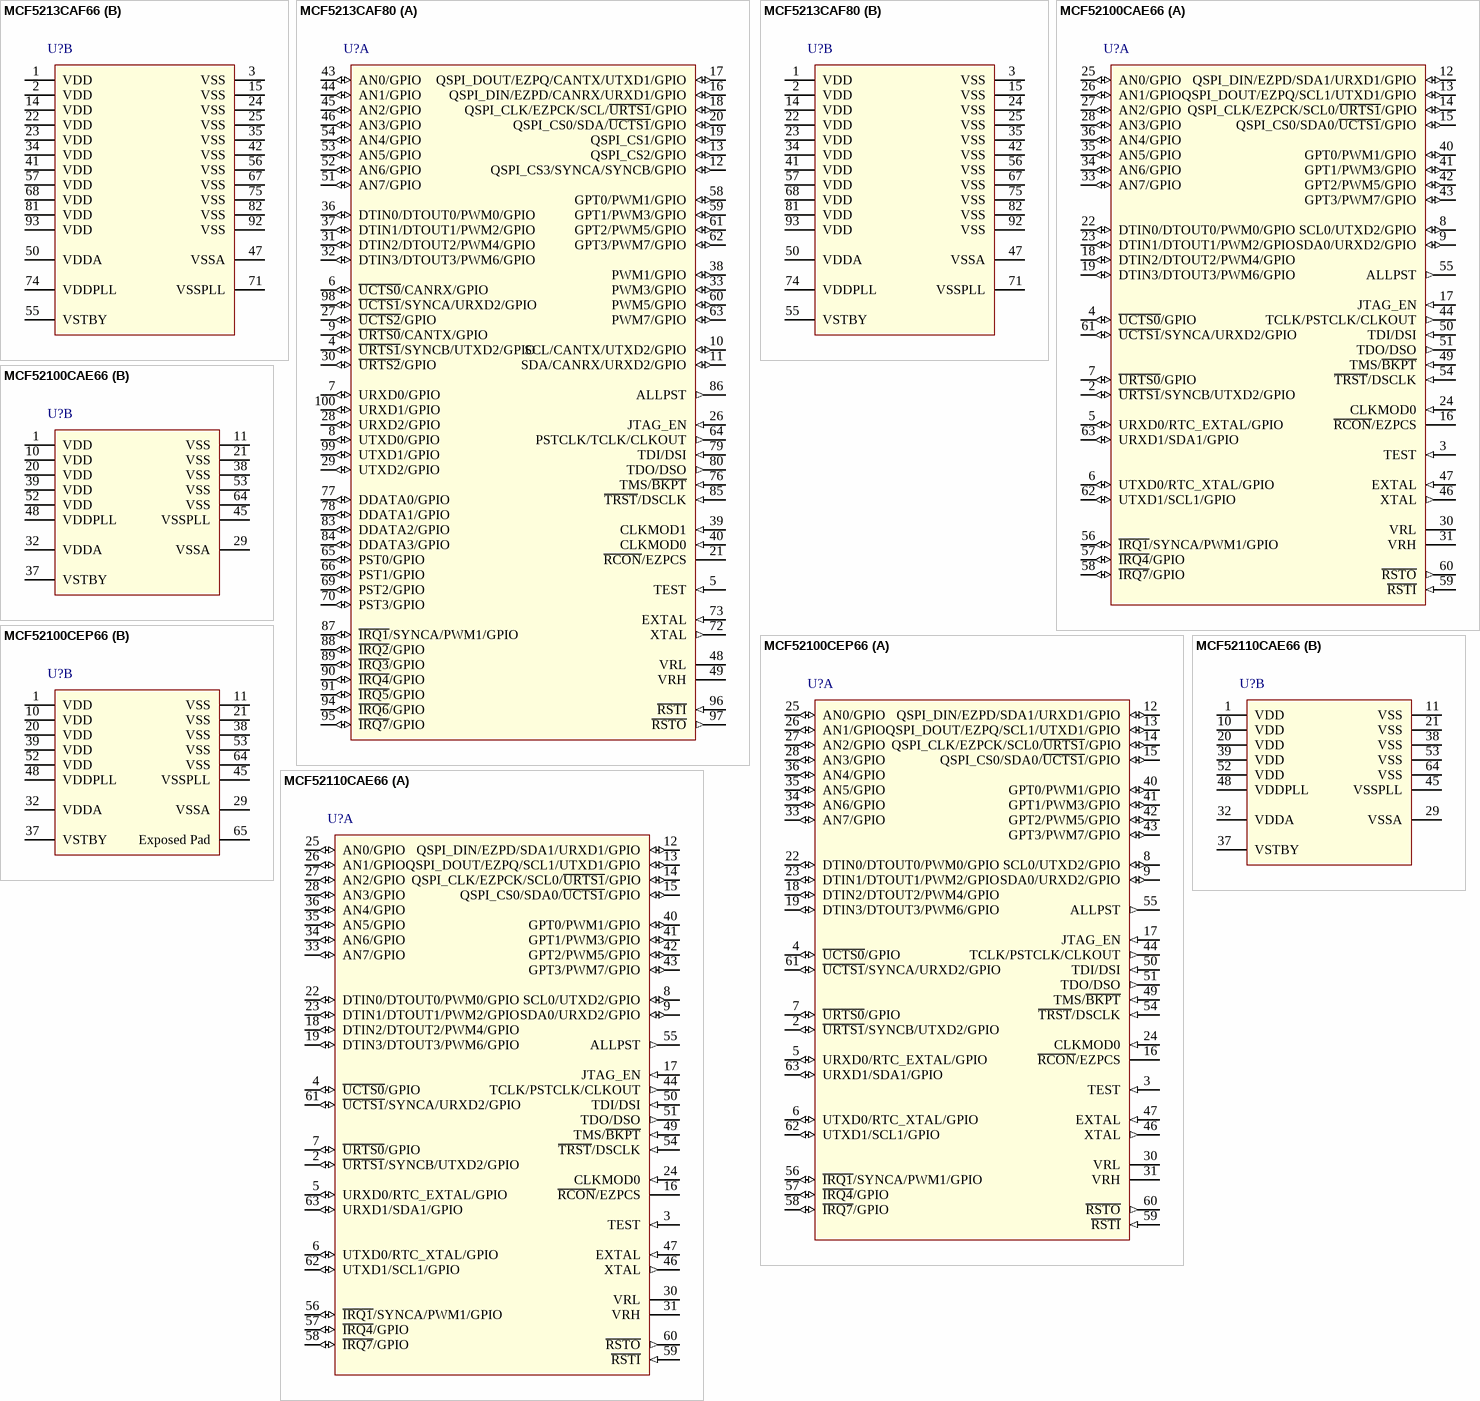
[diagram p16: symbols MCF5213CAF66 to MCF52110CAE66]

## MCF5213CAF66
designator U?
MCF5213 ColdFire V2 Microcontroller, FlexCAN, 32-Bit, 66MHz, 256KB Flash, 32KB SRAM, 100-Pin LQFP; DatasheetVersion: rev4, Jun-2010; PackageVersion: rev3.1, Nov-2000; PackageReference: 983-02; PackageDescription: 100-Pin Shrink Quad Flat Pack 0.5 mm Pitch; Code_IPC: SQFP50P1600X1600-100; ComponentLink1Description: Manufacturer URL; ComponentLink1URL: http://www.freescale.com/; ComponentLink2Description: Datasheet; ComponentLink2URL: http://cache.freescale.com/files/32bit/doc/data_sheet/MCF5213EC.pdf?fpsp=1&WT_TYPE=Data%20Sheets&WT_VENDOR=FREESCALE&WT_FILE_FORMAT=pdf&WT_ASSET=Documentation
footprint 983-02_N (Shrink QFP, 100-Leads, Body 14x14mm, Pitch 0.5mm, IPC Medium Density)
footprint 983-02_L (Shrink QFP, 100-Leads, Body 14x14mm, Pitch 0.5mm, IPC High Density)
footprint 983-02_M (Shrink QFP, 100-Leads, Body 14x14mm, Pitch 0.5mm, IPC Low Density)
part A pins: 4 ~{URTS1}/SYNCB/UTXD2/GPIO (io), 5 TEST (in), 6 ~{UCTS0}/CANRX/GPIO (io), 7 URXD0/GPIO (io), 8 UTXD0/GPIO (io), 9 ~{URTS0}/CANTX/GPIO (io), 10 SCL/CANTX/UTXD2/GPIO (io), 11 SDA/CANRX/URXD2/GPIO (io), 12 QSPI_CS3/SYNCA/SYNCB/GPIO (io), 13 QSPI_CS2/GPIO (io), 16 QSPI_DIN/EZPD/CANRX/URXD1/GPIO (io), 17 QSPI_DOUT/EZPQ/CANTX/UTXD1/GPIO (io), 18 QSPI_CLK/EZPCK/SCL/~{URTS1}/GPIO (io), 19 QSPI_CS1/GPIO (io), 20 QSPI_CS0/SDA/~{UCTS1}/GPIO (io), 21 ~{RCON}/EZPCS, 26 JTAG_EN (in), 27 ~{UCTS2}/GPIO (io), 28 URXD2/GPIO (io), 29 UTXD2/GPIO (io), 30 ~{URTS2}/GPIO (io), 31 DTIN2/DTOUT2/PWM4/GPIO (io), 32 DTIN3/DTOUT3/PWM6/GPIO (io), 33 PWM3/GPIO (io), 36 DTIN0/DTOUT0/PWM0/GPIO (io), 37 DTIN1/DTOUT1/PWM2/GPIO (io), 38 PWM1/GPIO (io), 39 CLKMOD1 (in), 40 CLKMOD0 (in), 43 AN0/GPIO (io), 44 AN1/GPIO (io), 45 AN2/GPIO (io), 46 AN3/GPIO (io), 48 VRL, 49 VRH, 51 AN7/GPIO (io), 52 AN6/GPIO (io), 53 AN5/GPIO (io), 54 AN4/GPIO (io), 58 GPT0/PWM1/GPIO (io), 59 GPT1/PWM3/GPIO (io), 60 PWM5/GPIO (io), 61 GPT2/PWM5/GPIO (io), 62 GPT3/PWM7/GPIO (io), 63 PWM7/GPIO (io), 64 PSTCLK/TCLK/CLKOUT (out), 65 PST0/GPIO (io), 66 PST1/GPIO (io), 69 PST2/GPIO (io), 70 PST3/GPIO (io), 72 XTAL (out), 73 EXTAL (in), 76 TMS/~{BKPT} (in), 77 DDATA0/GPIO (io), 78 DDATA1/GPIO (io), 79 TDI/DSI (in), 80 TDO/DSO (out), 83 DDATA2/GPIO (io), 84 DDATA3/GPIO (io), 85 ~{TRST}/DSCLK (in), 86 ALLPST (out), 87 ~{IRQ1}/SYNCA/PWM1/GPIO (io), 88 ~{IRQ2}/GPIO (io), 89 ~{IRQ3}/GPIO (io), 90 ~{IRQ4}/GPIO (io), 91 ~{IRQ5}/GPIO (io), 94 ~{IRQ6}/GPIO (io), 95 ~{IRQ7}/GPIO (io), 96 ~{RSTI} (in), 97 ~{RSTO} (out), 98 ~{UCTS1}/SYNCA/URXD2/GPIO (io), 99 UTXD1/GPIO (io), 100 URXD1/GPIO (io)
part B pins: 1 VDD (power), 2 VDD (power), 3 VSS (power), 14 VDD (power), 15 VSS (power), 22 VDD (power), 23 VDD (power), 24 VSS (power), 25 VSS (power), 34 VDD (power), 35 VSS (power), 41 VDD (power), 42 VSS (power), 47 VSSA (power), 50 VDDA (power), 55 VSTBY (power), 56 VSS (power), 57 VDD (power), 67 VSS (power), 68 VDD (power), 71 VSSPLL (power), 74 VDDPLL (power), 75 VSS (power), 81 VDD (power), 82 VSS (power), 92 VSS (power), 93 VDD (power)

## MCF5213CAF80
designator U?
MCF5213 ColdFire V2 Microcontroller, FlexCAN, 32-Bit, 80MHz, 256KB Flash, 32KB SRAM, 100-Pin LQFP; DatasheetVersion: rev4, Jun-2010; PackageVersion: rev3.1, Nov-2000; PackageReference: 983-02; PackageDescription: 100-Pin Shrink Quad Flat Pack 0.5 mm Pitch; Code_IPC: SQFP50P1600X1600-100; ComponentLink1Description: Manufacturer URL; ComponentLink1URL: http://www.freescale.com/; ComponentLink2Description: Datasheet; ComponentLink2URL: http://cache.freescale.com/files/32bit/doc/data_sheet/MCF5213EC.pdf?fpsp=1&WT_TYPE=Data%20Sheets&WT_VENDOR=FREESCALE&WT_FILE_FORMAT=pdf&WT_ASSET=Documentation
footprint 983-02_N (Shrink QFP, 100-Leads, Body 14x14mm, Pitch 0.5mm, IPC Medium Density)
footprint 983-02_L (Shrink QFP, 100-Leads, Body 14x14mm, Pitch 0.5mm, IPC High Density)
footprint 983-02_M (Shrink QFP, 100-Leads, Body 14x14mm, Pitch 0.5mm, IPC Low Density)
part A pins: 4 ~{URTS1}/SYNCB/UTXD2/GPIO (io), 5 TEST (in), 6 ~{UCTS0}/CANRX/GPIO (io), 7 URXD0/GPIO (io), 8 UTXD0/GPIO (io), 9 ~{URTS0}/CANTX/GPIO (io), 10 SCL/CANTX/UTXD2/GPIO (io), 11 SDA/CANRX/URXD2/GPIO (io), 12 QSPI_CS3/SYNCA/SYNCB/GPIO (io), 13 QSPI_CS2/GPIO (io), 16 QSPI_DIN/EZPD/CANRX/URXD1/GPIO (io), 17 QSPI_DOUT/EZPQ/CANTX/UTXD1/GPIO (io), 18 QSPI_CLK/EZPCK/SCL/~{URTS1}/GPIO (io), 19 QSPI_CS1/GPIO (io), 20 QSPI_CS0/SDA/~{UCTS1}/GPIO (io), 21 ~{RCON}/EZPCS, 26 JTAG_EN (in), 27 ~{UCTS2}/GPIO (io), 28 URXD2/GPIO (io), 29 UTXD2/GPIO (io), 30 ~{URTS2}/GPIO (io), 31 DTIN2/DTOUT2/PWM4/GPIO (io), 32 DTIN3/DTOUT3/PWM6/GPIO (io), 33 PWM3/GPIO (io), 36 DTIN0/DTOUT0/PWM0/GPIO (io), 37 DTIN1/DTOUT1/PWM2/GPIO (io), 38 PWM1/GPIO (io), 39 CLKMOD1 (in), 40 CLKMOD0 (in), 43 AN0/GPIO (io), 44 AN1/GPIO (io), 45 AN2/GPIO (io), 46 AN3/GPIO (io), 48 VRL, 49 VRH, 51 AN7/GPIO (io), 52 AN6/GPIO (io), 53 AN5/GPIO (io), 54 AN4/GPIO (io), 58 GPT0/PWM1/GPIO (io), 59 GPT1/PWM3/GPIO (io), 60 PWM5/GPIO (io), 61 GPT2/PWM5/GPIO (io), 62 GPT3/PWM7/GPIO (io), 63 PWM7/GPIO (io), 64 PSTCLK/TCLK/CLKOUT (out), 65 PST0/GPIO (io), 66 PST1/GPIO (io), 69 PST2/GPIO (io), 70 PST3/GPIO (io), 72 XTAL (out), 73 EXTAL (in), 76 TMS/~{BKPT} (in), 77 DDATA0/GPIO (io), 78 DDATA1/GPIO (io), 79 TDI/DSI (in), 80 TDO/DSO (out), 83 DDATA2/GPIO (io), 84 DDATA3/GPIO (io), 85 ~{TRST}/DSCLK (in), 86 ALLPST (out), 87 ~{IRQ1}/SYNCA/PWM1/GPIO (io), 88 ~{IRQ2}/GPIO (io), 89 ~{IRQ3}/GPIO (io), 90 ~{IRQ4}/GPIO (io), 91 ~{IRQ5}/GPIO (io), 94 ~{IRQ6}/GPIO (io), 95 ~{IRQ7}/GPIO (io), 96 ~{RSTI} (in), 97 ~{RSTO} (out), 98 ~{UCTS1}/SYNCA/URXD2/GPIO (io), 99 UTXD1/GPIO (io), 100 URXD1/GPIO (io)
part B pins: 1 VDD (power), 2 VDD (power), 3 VSS (power), 14 VDD (power), 15 VSS (power), 22 VDD (power), 23 VDD (power), 24 VSS (power), 25 VSS (power), 34 VDD (power), 35 VSS (power), 41 VDD (power), 42 VSS (power), 47 VSSA (power), 50 VDDA (power), 55 VSTBY (power), 56 VSS (power), 57 VDD (power), 67 VSS (power), 68 VDD (power), 71 VSSPLL (power), 74 VDDPLL (power), 75 VSS (power), 81 VDD (power), 82 VSS (power), 92 VSS (power), 93 VDD (power)

## MCF52100CAE66
designator U?
MCF52100 ColdFire V2 Microcontroller, 32-Bit, 64KB Flash, 16KB SRAM, 66MHz, 64-Pin LQFP; DatasheetVersion: rev1, Mar-2011; PackageVersion: rev6, Mar-2011; PackageReference: 840F-02; PackageDescription: 64-Pin Thin Quad Flat Pack, 10 x 10 mm Body, 0.5 mm Pitch; ComponentLink1Description: Manufacturer URL; ComponentLink1URL: http://www.freescale.com/; ComponentLink2Description: Datasheet; ComponentLink2URL: http://cache.freescale.com/files/32bit/doc/data_sheet/MCF52110.pdf?fpsp=1&WT_TYPE=Data%20Sheets&WT_VENDOR=FREESCALE&WT_FILE_FORMAT=pdf&WT_ASSET=Documentation
footprint 840F-02_N (Thin QFP, 64-Leads, Body 10x10mm, Pitch 0.5mm, IPC Medium Density)
footprint 840F-02_L (Thin QFP, 64-Leads, Body 10x10mm, Pitch 0.5mm, IPC High Density)
footprint 840F-02_M (Thin QFP, 64-Leads, Body 10x10mm, Pitch 0.5mm, IPC Low Density)
part A pins: 2 ~{URTS1}/SYNCB/UTXD2/GPIO (io), 3 TEST (in), 4 ~{UCTS0}/GPIO (io), 5 URXD0/RTC_EXTAL/GPIO (io), 6 UTXD0/RTC_XTAL/GPIO (io), 7 ~{URTS0}/GPIO (io), 8 SCL0/UTXD2/GPIO (io), 9 SDA0/URXD2/GPIO (io), 12 QSPI_DIN/EZPD/SDA1/URXD1/GPIO (io), 13 QSPI_DOUT/EZPQ/SCL1/UTXD1/GPIO (io), 14 QSPI_CLK/EZPCK/SCL0/~{URTS1}/GPIO (io), 15 QSPI_CS0/SDA0/~{UCTS1}/GPIO (io), 16 ~{RCON}/EZPCS, 17 JTAG_EN (in), 18 DTIN2/DTOUT2/PWM4/GPIO (io), 19 DTIN3/DTOUT3/PWM6/GPIO (io), 22 DTIN0/DTOUT0/PWM0/GPIO (io), 23 DTIN1/DTOUT1/PWM2/GPIO (io), 24 CLKMOD0 (in), 25 AN0/GPIO (io), 26 AN1/GPIO (io), 27 AN2/GPIO (io), 28 AN3/GPIO (io), 30 VRL (power), 31 VRH (power), 33 AN7/GPIO (io), 34 AN6/GPIO (io), 35 AN5/GPIO (io), 36 AN4/GPIO (io), 40 GPT0/PWM1/GPIO (io), 41 GPT1/PWM3/GPIO (io), 42 GPT2/PWM5/GPIO (io), 43 GPT3/PWM7/GPIO (io), 44 TCLK/PSTCLK/CLKOUT (out), 46 XTAL (out), 47 EXTAL (in), 49 TMS/~{BKPT} (in), 50 TDI/DSI (in), 51 TDO/DSO (out), 54 ~{TRST}/DSCLK (in), 55 ALLPST (out), 56 ~{IRQ1}/SYNCA/PWM1/GPIO (io), 57 ~{IRQ4}/GPIO (io), 58 ~{IRQ7}/GPIO (io), 59 ~{RSTI} (in), 60 ~{RSTO} (out), 61 ~{UCTS1}/SYNCA/URXD2/GPIO (io), 62 UTXD1/SCL1/GPIO (io), 63 URXD1/SDA1/GPIO (io)
part B pins: 1 VDD (power), 10 VDD (power), 11 VSS (power), 20 VDD (power), 21 VSS (power), 29 VSSA (power), 32 VDDA (power), 37 VSTBY (power), 38 VSS (power), 39 VDD (power), 45 VSSPLL (power), 48 VDDPLL (power), 52 VDD (power), 53 VSS (power), 64 VSS (power)

## MCF52100CEP66
designator U?
MCF52100 ColdFire V2 Microcontroller, 32-Bit, 64KB Flash, 16KB SRAM, 66MHz, 64-Pin QFN; DatasheetVersion: rev1, Mar-2011; PackageVersion: revO; PackageReference: 1740-01; PackageDescription: 64-Pin Quad Flat No-Lead, 9 x 9 mm Body, 0.5 mm Pitch; Code_JEDEC: MO-220VMMD-3; ComponentLink1Description: Manufacturer URL; ComponentLink1URL: http://www.freescale.com/; ComponentLink2Description: Datasheet; ComponentLink2URL: http://cache.freescale.com/files/32bit/doc/data_sheet/MCF52110.pdf?fpsp=1&WT_TYPE=Data%20Sheets&WT_VENDOR=FREESCALE&WT_FILE_FORMAT=pdf&WT_ASSET=Documentation
footprint 1740-01_N (QFN, 64-Leads, Body 9x9mm, Pitch 0.5mm, Thermal Pad 6.1x6.1mm, IPC Medium Density)
footprint 1740-01_L (QFN, 64-Leads, Body 9x9mm, Pitch 0.5mm, Thermal Pad 6.1x6.1mm, IPC High Density)
footprint 1740-01_M (QFN, 64-Leads, Body 9x9mm, Pitch 0.5mm, Thermal Pad 6.1x6.1mm, IPC Low Density)
part A pins: 2 ~{URTS1}/SYNCB/UTXD2/GPIO (io), 3 TEST (in), 4 ~{UCTS0}/GPIO (io), 5 URXD0/RTC_EXTAL/GPIO (io), 6 UTXD0/RTC_XTAL/GPIO (io), 7 ~{URTS0}/GPIO (io), 8 SCL0/UTXD2/GPIO (io), 9 SDA0/URXD2/GPIO (io), 12 QSPI_DIN/EZPD/SDA1/URXD1/GPIO (io), 13 QSPI_DOUT/EZPQ/SCL1/UTXD1/GPIO (io), 14 QSPI_CLK/EZPCK/SCL0/~{URTS1}/GPIO (io), 15 QSPI_CS0/SDA0/~{UCTS1}/GPIO (io), 16 ~{RCON}/EZPCS, 17 JTAG_EN (in), 18 DTIN2/DTOUT2/PWM4/GPIO (io), 19 DTIN3/DTOUT3/PWM6/GPIO (io), 22 DTIN0/DTOUT0/PWM0/GPIO (io), 23 DTIN1/DTOUT1/PWM2/GPIO (io), 24 CLKMOD0 (in), 25 AN0/GPIO (io), 26 AN1/GPIO (io), 27 AN2/GPIO (io), 28 AN3/GPIO (io), 30 VRL (power), 31 VRH (power), 33 AN7/GPIO (io), 34 AN6/GPIO (io), 35 AN5/GPIO (io), 36 AN4/GPIO (io), 40 GPT0/PWM1/GPIO (io), 41 GPT1/PWM3/GPIO (io), 42 GPT2/PWM5/GPIO (io), 43 GPT3/PWM7/GPIO (io), 44 TCLK/PSTCLK/CLKOUT (out), 46 XTAL (out), 47 EXTAL (in), 49 TMS/~{BKPT} (in), 50 TDI/DSI (in), 51 TDO/DSO (out), 54 ~{TRST}/DSCLK (in), 55 ALLPST (out), 56 ~{IRQ1}/SYNCA/PWM1/GPIO (io), 57 ~{IRQ4}/GPIO (io), 58 ~{IRQ7}/GPIO (io), 59 ~{RSTI} (in), 60 ~{RSTO} (out), 61 ~{UCTS1}/SYNCA/URXD2/GPIO (io), 62 UTXD1/SCL1/GPIO (io), 63 URXD1/SDA1/GPIO (io)
part B pins: 1 VDD (power), 10 VDD (power), 11 VSS (power), 20 VDD (power), 21 VSS (power), 29 VSSA (power), 32 VDDA (power), 37 VSTBY (power), 38 VSS (power), 39 VDD (power), 45 VSSPLL (power), 48 VDDPLL (power), 52 VDD (power), 53 VSS (power), 64 VSS (power), 65 Exposed Pad (power)

## MCF52110CAE66
designator U?
MCF52110 ColdFire V2 Microcontroller, 32-Bit, 128KB Flash, 16KB SRAM, 66MHz, 64-Pin LQFP; DatasheetVersion: rev1, Mar-2011; PackageVersion: rev6, Mar-2011; PackageReference: 840F-02; PackageDescription: 64-Pin Thin Quad Flat Pack, 10 x 10 mm Body, 0.5 mm Pitch; ComponentLink1Description: Manufacturer URL; ComponentLink1URL: http://www.freescale.com/; ComponentLink2Description: Datasheet; ComponentLink2URL: http://cache.freescale.com/files/32bit/doc/data_sheet/MCF52110.pdf?fpsp=1&WT_TYPE=Data%20Sheets&WT_VENDOR=FREESCALE&WT_FILE_FORMAT=pdf&WT_ASSET=Documentation
footprint 840F-02_N (Thin QFP, 64-Leads, Body 10x10mm, Pitch 0.5mm, IPC Medium Density)
footprint 840F-02_L (Thin QFP, 64-Leads, Body 10x10mm, Pitch 0.5mm, IPC High Density)
footprint 840F-02_M (Thin QFP, 64-Leads, Body 10x10mm, Pitch 0.5mm, IPC Low Density)
part A pins: 2 ~{URTS1}/SYNCB/UTXD2/GPIO (io), 3 TEST (in), 4 ~{UCTS0}/GPIO (io), 5 URXD0/RTC_EXTAL/GPIO (io), 6 UTXD0/RTC_XTAL/GPIO (io), 7 ~{URTS0}/GPIO (io), 8 SCL0/UTXD2/GPIO (io), 9 SDA0/URXD2/GPIO (io), 12 QSPI_DIN/EZPD/SDA1/URXD1/GPIO (io), 13 QSPI_DOUT/EZPQ/SCL1/UTXD1/GPIO (io), 14 QSPI_CLK/EZPCK/SCL0/~{URTS1}/GPIO (io), 15 QSPI_CS0/SDA0/~{UCTS1}/GPIO (io), 16 ~{RCON}/EZPCS, 17 JTAG_EN (in), 18 DTIN2/DTOUT2/PWM4/GPIO (io), 19 DTIN3/DTOUT3/PWM6/GPIO (io), 22 DTIN0/DTOUT0/PWM0/GPIO (io), 23 DTIN1/DTOUT1/PWM2/GPIO (io), 24 CLKMOD0 (in), 25 AN0/GPIO (io), 26 AN1/GPIO (io), 27 AN2/GPIO (io), 28 AN3/GPIO (io), 30 VRL (power), 31 VRH (power), 33 AN7/GPIO (io), 34 AN6/GPIO (io), 35 AN5/GPIO (io), 36 AN4/GPIO (io), 40 GPT0/PWM1/GPIO (io), 41 GPT1/PWM3/GPIO (io), 42 GPT2/PWM5/GPIO (io), 43 GPT3/PWM7/GPIO (io), 44 TCLK/PSTCLK/CLKOUT (out), 46 XTAL (out), 47 EXTAL (in), 49 TMS/~{BKPT} (in), 50 TDI/DSI (in), 51 TDO/DSO (out), 54 ~{TRST}/DSCLK (in), 55 ALLPST (out), 56 ~{IRQ1}/SYNCA/PWM1/GPIO (io), 57 ~{IRQ4}/GPIO (io), 58 ~{IRQ7}/GPIO (io), 59 ~{RSTI} (in), 60 ~{RSTO} (out), 61 ~{UCTS1}/SYNCA/URXD2/GPIO (io), 62 UTXD1/SCL1/GPIO (io), 63 URXD1/SDA1/GPIO (io)
part B pins: 1 VDD (power), 10 VDD (power), 11 VSS (power), 20 VDD (power), 21 VSS (power), 29 VSSA (power), 32 VDDA (power), 37 VSTBY (power), 38 VSS (power), 39 VDD (power), 45 VSSPLL (power), 48 VDDPLL (power), 52 VDD (power), 53 VSS (power), 64 VSS (power)

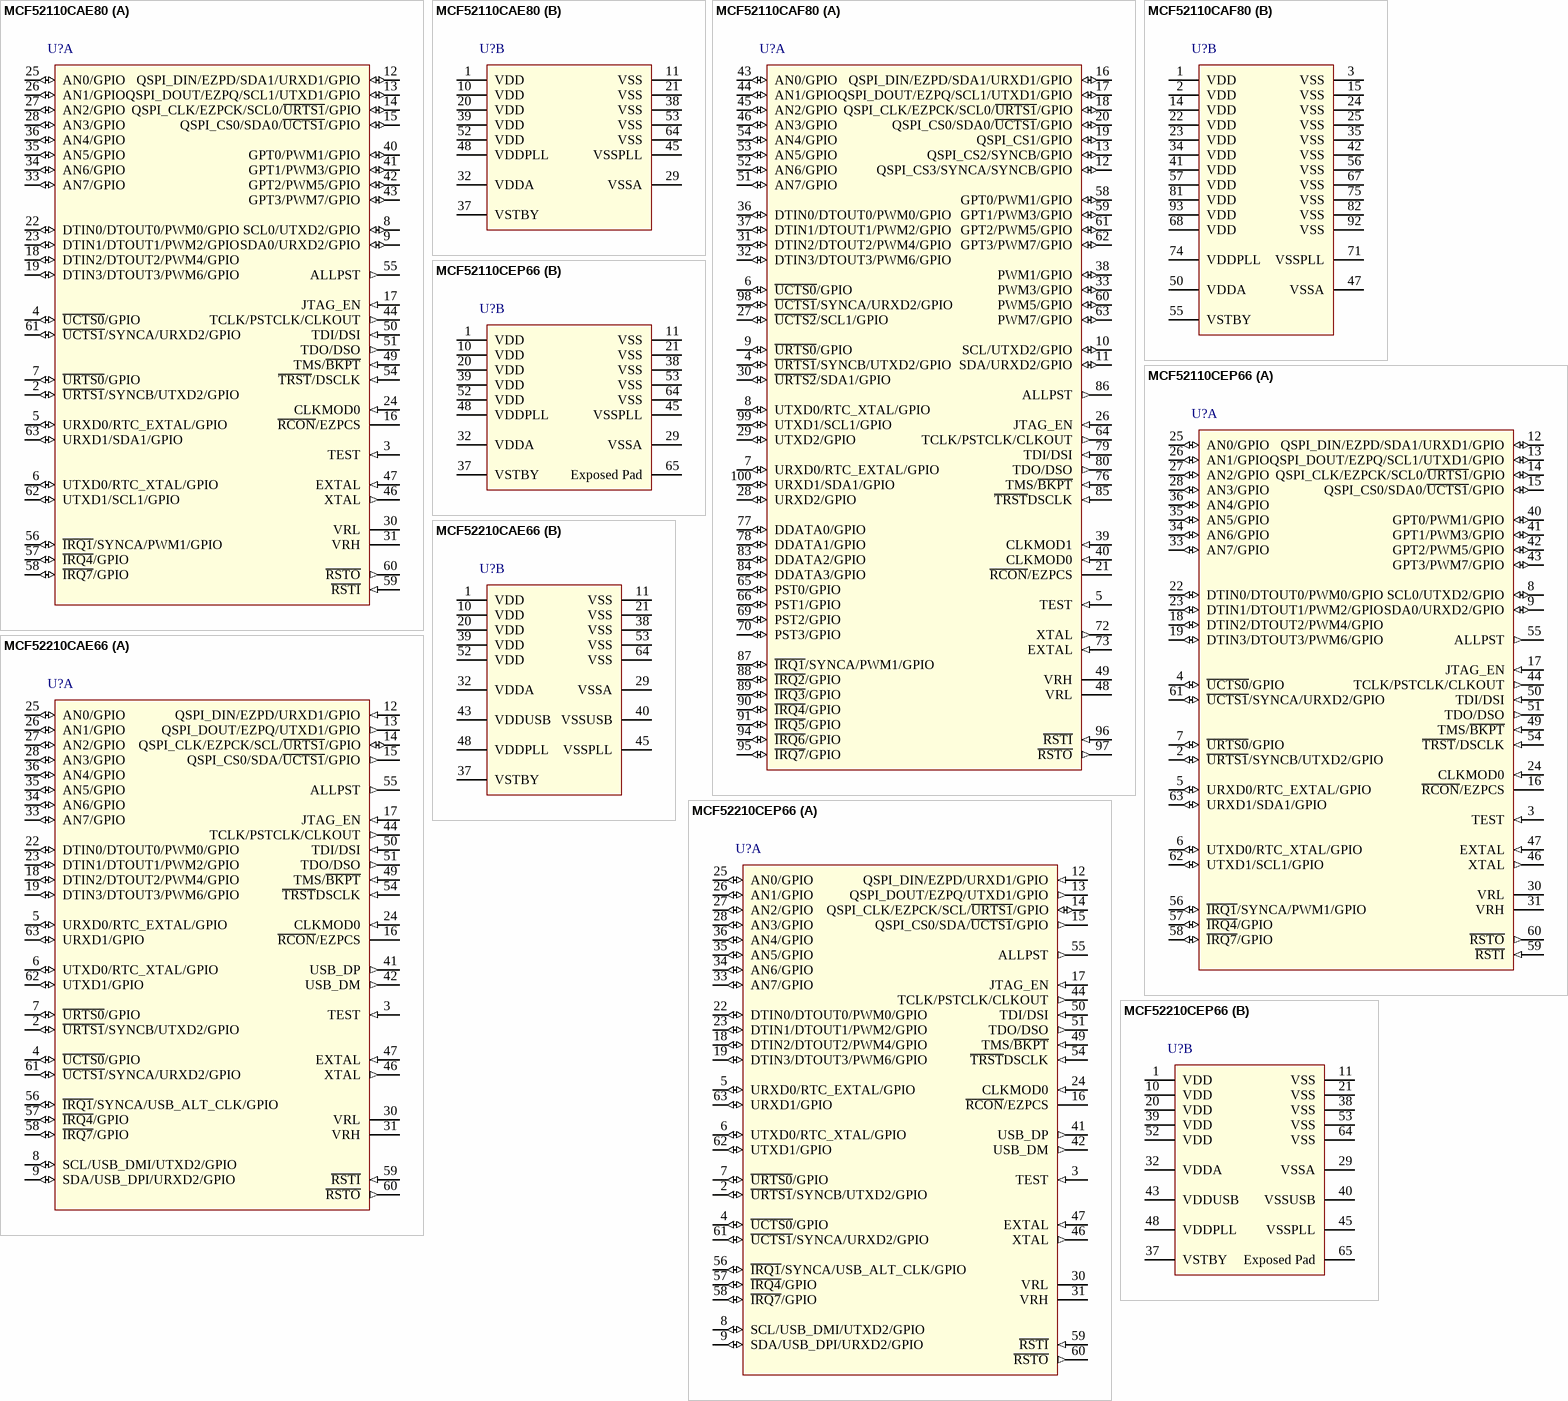
[diagram p17: symbols MCF52110CAE80 to MCF52210CEP66]

## MCF52110CAE80
designator U?
MCF52110 ColdFire V2 Microcontroller, 32-Bit, 128KB Flash, 16KB SRAM, 80MHz, 64-Pin LQFP; DatasheetVersion: rev1, Mar-2011; PackageVersion: rev6, Mar-2011; PackageReference: 840F-02; PackageDescription: 64-Pin Thin Quad Flat Pack, 10 x 10 mm Body, 0.5 mm Pitch; ComponentLink1Description: Manufacturer URL; ComponentLink1URL: http://www.freescale.com/; ComponentLink2Description: Datasheet; ComponentLink2URL: http://cache.freescale.com/files/32bit/doc/data_sheet/MCF52110.pdf?fpsp=1&WT_TYPE=Data%20Sheets&WT_VENDOR=FREESCALE&WT_FILE_FORMAT=pdf&WT_ASSET=Documentation
footprint 840F-02_N (Thin QFP, 64-Leads, Body 10x10mm, Pitch 0.5mm, IPC Medium Density)
footprint 840F-02_L (Thin QFP, 64-Leads, Body 10x10mm, Pitch 0.5mm, IPC High Density)
footprint 840F-02_M (Thin QFP, 64-Leads, Body 10x10mm, Pitch 0.5mm, IPC Low Density)
part A pins: 2 ~{URTS1}/SYNCB/UTXD2/GPIO (io), 3 TEST (in), 4 ~{UCTS0}/GPIO (io), 5 URXD0/RTC_EXTAL/GPIO (io), 6 UTXD0/RTC_XTAL/GPIO (io), 7 ~{URTS0}/GPIO (io), 8 SCL0/UTXD2/GPIO (io), 9 SDA0/URXD2/GPIO (io), 12 QSPI_DIN/EZPD/SDA1/URXD1/GPIO (io), 13 QSPI_DOUT/EZPQ/SCL1/UTXD1/GPIO (io), 14 QSPI_CLK/EZPCK/SCL0/~{URTS1}/GPIO (io), 15 QSPI_CS0/SDA0/~{UCTS1}/GPIO (io), 16 ~{RCON}/EZPCS, 17 JTAG_EN (in), 18 DTIN2/DTOUT2/PWM4/GPIO (io), 19 DTIN3/DTOUT3/PWM6/GPIO (io), 22 DTIN0/DTOUT0/PWM0/GPIO (io), 23 DTIN1/DTOUT1/PWM2/GPIO (io), 24 CLKMOD0 (in), 25 AN0/GPIO (io), 26 AN1/GPIO (io), 27 AN2/GPIO (io), 28 AN3/GPIO (io), 30 VRL (power), 31 VRH (power), 33 AN7/GPIO (io), 34 AN6/GPIO (io), 35 AN5/GPIO (io), 36 AN4/GPIO (io), 40 GPT0/PWM1/GPIO (io), 41 GPT1/PWM3/GPIO (io), 42 GPT2/PWM5/GPIO (io), 43 GPT3/PWM7/GPIO (io), 44 TCLK/PSTCLK/CLKOUT (out), 46 XTAL (out), 47 EXTAL (in), 49 TMS/~{BKPT} (in), 50 TDI/DSI (in), 51 TDO/DSO (out), 54 ~{TRST}/DSCLK (in), 55 ALLPST (out), 56 ~{IRQ1}/SYNCA/PWM1/GPIO (io), 57 ~{IRQ4}/GPIO (io), 58 ~{IRQ7}/GPIO (io), 59 ~{RSTI} (in), 60 ~{RSTO} (out), 61 ~{UCTS1}/SYNCA/URXD2/GPIO (io), 62 UTXD1/SCL1/GPIO (io), 63 URXD1/SDA1/GPIO (io)
part B pins: 1 VDD (power), 10 VDD (power), 11 VSS (power), 20 VDD (power), 21 VSS (power), 29 VSSA (power), 32 VDDA (power), 37 VSTBY (power), 38 VSS (power), 39 VDD (power), 45 VSSPLL (power), 48 VDDPLL (power), 52 VDD (power), 53 VSS (power), 64 VSS (power)

## MCF52110CAF80
designator U?
MCF52110 ColdFire V2 Microcontroller, 32-Bit, 128KB Flash, 16KB SRAM, 80MHz, 100-Pin LQFP; DatasheetVersion: rev1, Mar-2011; PackageVersion: rev3.1, Nov-2000; PackageReference: 983-02; PackageDescription: 100-Pin Shrink Quad Flat Pack 0.5 mm Pitch; Code_IPC: SQFP50P1600X1600-100; ComponentLink1Description: Manufacturer URL; ComponentLink1URL: http://www.freescale.com/; ComponentLink2Description: Datasheet; ComponentLink2URL: http://cache.freescale.com/files/32bit/doc/data_sheet/MCF52110.pdf?fpsp=1&WT_TYPE=Data%20Sheets&WT_VENDOR=FREESCALE&WT_FILE_FORMAT=pdf&WT_ASSET=Documentation
footprint 983-02_N (Shrink QFP, 100-Leads, Body 14x14mm, Pitch 0.5mm, IPC Medium Density)
footprint 983-02_L (Shrink QFP, 100-Leads, Body 14x14mm, Pitch 0.5mm, IPC High Density)
footprint 983-02_M (Shrink QFP, 100-Leads, Body 14x14mm, Pitch 0.5mm, IPC Low Density)
part A pins: 4 ~{URTS1}/SYNCB/UTXD2/GPIO (io), 5 TEST (in), 6 ~{UCTS0}/GPIO (io), 7 URXD0/RTC_EXTAL/GPIO (io), 8 UTXD0/RTC_XTAL/GPIO (io), 9 ~{URTS0}/GPIO (io), 10 SCL/UTXD2/GPIO (io), 11 SDA/URXD2/GPIO (io), 12 QSPI_CS3/SYNCA/SYNCB/GPIO (io), 13 QSPI_CS2/SYNCB/GPIO (io), 16 QSPI_DIN/EZPD/SDA1/URXD1/GPIO (io), 17 QSPI_DOUT/EZPQ/SCL1/UTXD1/GPIO (io), 18 QSPI_CLK/EZPCK/SCL0/~{URTS1}/GPIO (io), 19 QSPI_CS1/GPIO (io), 20 QSPI_CS0/SDA0/~{UCTS1}/GPIO (io), 21 ~{RCON}/EZPCS, 26 JTAG_EN (in), 27 ~{UCTS2}/SCL1/GPIO (io), 28 URXD2/GPIO (io), 29 UTXD2/GPIO (io), 30 ~{URTS2}/SDA1/GPIO (io), 31 DTIN2/DTOUT2/PWM4/GPIO (io), 32 DTIN3/DTOUT3/PWM6/GPIO (io), 33 PWM3/GPIO (io), 36 DTIN0/DTOUT0/PWM0/GPIO (io), 37 DTIN1/DTOUT1/PWM2/GPIO (io), 38 PWM1/GPIO (io), 39 CLKMOD1 (in), 40 CLKMOD0 (in), 43 AN0/GPIO (io), 44 AN1/GPIO (io), 45 AN2/GPIO (io), 46 AN3/GPIO (io), 48 VRL (power), 49 VRH (power), 51 AN7/GPIO (io), 52 AN6/GPIO (io), 53 AN5/GPIO (io), 54 AN4/GPIO (io), 58 GPT0/PWM1/GPIO (io), 59 GPT1/PWM3/GPIO (io), 60 PWM5/GPIO (io), 61 GPT2/PWM5/GPIO (io), 62 GPT3/PWM7/GPIO (io), 63 PWM7/GPIO (io), 64 TCLK/PSTCLK/CLKOUT (out), 65 PST0/GPIO (io), 66 PST1/GPIO (io), 69 PST2/GPIO (io), 70 PST3/GPIO (io), 72 XTAL (out), 73 EXTAL (in), 76 TMS/~{BKPT} (in), 77 DDATA0/GPIO (io), 78 DDATA1/GPIO (io), 79 TDI/DSI (in), 80 TDO/DSO (out), 83 DDATA2/GPIO (io), 84 DDATA3/GPIO (io), 85 ~{TRST}DSCLK (in), 86 ALLPST (out), 87 ~{IRQ1}/SYNCA/PWM1/GPIO (io), 88 ~{IRQ2}/GPIO (io), 89 ~{IRQ3}/GPIO (io), 90 ~{IRQ4}/GPIO (io), 91 ~{IRQ5}/GPIO (io), 94 ~{IRQ6}/GPIO (io), 95 ~{IRQ7}/GPIO (io), 96 ~{RSTI} (in), 97 ~{RSTO} (out), 98 ~{UCTS1}/SYNCA/URXD2/GPIO (io), 99 UTXD1/SCL1/GPIO (io), 100 URXD1/SDA1/GPIO (io)
part B pins: 1 VDD (power), 2 VDD (power), 3 VSS (power), 14 VDD (power), 15 VSS (power), 22 VDD (power), 23 VDD (power), 24 VSS (power), 25 VSS (power), 34 VDD (power), 35 VSS (power), 41 VDD (power), 42 VSS (power), 47 VSSA (power), 50 VDDA (power), 55 VSTBY (power), 56 VSS (power), 57 VDD (power), 67 VSS (power), 68 VDD (power), 71 VSSPLL (power), 74 VDDPLL (power), 75 VSS (power), 81 VDD (power), 82 VSS (power), 92 VSS (power), 93 VDD (power)

## MCF52110CEP66
designator U?
MCF52110 ColdFire V2 Microcontroller, 32-Bit, 128KB Flash, 16KB SRAM, 66MHz, 64-Pin QFN; DatasheetVersion: rev1, Mar-2011; PackageVersion: revO; PackageReference: 1740-01; PackageDescription: 64-Pin Quad Flat No-Lead, 9 x 9 mm Body, 0.5 mm Pitch; Code_JEDEC: MO-220VMMD-3; ComponentLink1Description: Manufacturer URL; ComponentLink1URL: http://www.freescale.com/; ComponentLink2Description: Datasheet; ComponentLink2URL: http://cache.freescale.com/files/32bit/doc/data_sheet/MCF52110.pdf?fpsp=1&WT_TYPE=Data%20Sheets&WT_VENDOR=FREESCALE&WT_FILE_FORMAT=pdf&WT_ASSET=Documentation
footprint 1740-01_N (QFN, 64-Leads, Body 9x9mm, Pitch 0.5mm, Thermal Pad 6.1x6.1mm, IPC Medium Density)
footprint 1740-01_L (QFN, 64-Leads, Body 9x9mm, Pitch 0.5mm, Thermal Pad 6.1x6.1mm, IPC High Density)
footprint 1740-01_M (QFN, 64-Leads, Body 9x9mm, Pitch 0.5mm, Thermal Pad 6.1x6.1mm, IPC Low Density)
part A pins: 2 ~{URTS1}/SYNCB/UTXD2/GPIO (io), 3 TEST (in), 4 ~{UCTS0}/GPIO (io), 5 URXD0/RTC_EXTAL/GPIO (io), 6 UTXD0/RTC_XTAL/GPIO (io), 7 ~{URTS0}/GPIO (io), 8 SCL0/UTXD2/GPIO (io), 9 SDA0/URXD2/GPIO (io), 12 QSPI_DIN/EZPD/SDA1/URXD1/GPIO (io), 13 QSPI_DOUT/EZPQ/SCL1/UTXD1/GPIO (io), 14 QSPI_CLK/EZPCK/SCL0/~{URTS1}/GPIO (io), 15 QSPI_CS0/SDA0/~{UCTS1}/GPIO (io), 16 ~{RCON}/EZPCS, 17 JTAG_EN (in), 18 DTIN2/DTOUT2/PWM4/GPIO (io), 19 DTIN3/DTOUT3/PWM6/GPIO (io), 22 DTIN0/DTOUT0/PWM0/GPIO (io), 23 DTIN1/DTOUT1/PWM2/GPIO (io), 24 CLKMOD0 (in), 25 AN0/GPIO (io), 26 AN1/GPIO (io), 27 AN2/GPIO (io), 28 AN3/GPIO (io), 30 VRL (power), 31 VRH (power), 33 AN7/GPIO (io), 34 AN6/GPIO (io), 35 AN5/GPIO (io), 36 AN4/GPIO (io), 40 GPT0/PWM1/GPIO (io), 41 GPT1/PWM3/GPIO (io), 42 GPT2/PWM5/GPIO (io), 43 GPT3/PWM7/GPIO (io), 44 TCLK/PSTCLK/CLKOUT (out), 46 XTAL (out), 47 EXTAL (in), 49 TMS/~{BKPT} (in), 50 TDI/DSI (in), 51 TDO/DSO (out), 54 ~{TRST}/DSCLK (in), 55 ALLPST (out), 56 ~{IRQ1}/SYNCA/PWM1/GPIO (io), 57 ~{IRQ4}/GPIO (io), 58 ~{IRQ7}/GPIO (io), 59 ~{RSTI} (in), 60 ~{RSTO} (out), 61 ~{UCTS1}/SYNCA/URXD2/GPIO (io), 62 UTXD1/SCL1/GPIO (io), 63 URXD1/SDA1/GPIO (io)
part B pins: 1 VDD (power), 10 VDD (power), 11 VSS (power), 20 VDD (power), 21 VSS (power), 29 VSSA (power), 32 VDDA (power), 37 VSTBY (power), 38 VSS (power), 39 VDD (power), 45 VSSPLL (power), 48 VDDPLL (power), 52 VDD (power), 53 VSS (power), 64 VSS (power), 65 Exposed Pad (power)

## MCF52210CAE66
designator U?
MCF52210 ColdFire V2 Microcontroller, 2 UARTs, 32-Bit, 64KB Flash, 16KB SRAM, 66MHz, -40°C to 85°C, 64-Pin LQFP; DatasheetVersion: rev2, Mar-2011; PackageVersion: rev6, Mar-2011; PackageReference: 840F-02; PackageDescription: 64-Pin Thin Quad Flat Pack, 10 x 10 mm Body, 0.5 mm Pitch; ComponentLink1Description: Manufacturer URL; ComponentLink1URL: http://www.freescale.com/; ComponentLink2Description: Datasheet; ComponentLink2URL: http://cache.freescale.com/files/32bit/doc/data_sheet/MCF52211.pdf?fpsp=1&WT_TYPE=Data%20Sheets&WT_VENDOR=FREESCALE&WT_FILE_FORMAT=pdf&WT_ASSET=Documentation
footprint 840F-02_N (Thin QFP, 64-Leads, Body 10x10mm, Pitch 0.5mm, IPC Medium Density)
footprint 840F-02_L (Thin QFP, 64-Leads, Body 10x10mm, Pitch 0.5mm, IPC High Density)
footprint 840F-02_M (Thin QFP, 64-Leads, Body 10x10mm, Pitch 0.5mm, IPC Low Density)
part A pins: 2 ~{URTS1}/SYNCB/UTXD2/GPIO (io), 3 TEST (in), 4 ~{UCTS0}/GPIO (io), 5 URXD0/RTC_EXTAL/GPIO (io), 6 UTXD0/RTC_XTAL/GPIO (io), 7 ~{URTS0}/GPIO (io), 8 SCL/USB_DMI/UTXD2/GPIO (io), 9 SDA/USB_DPI/URXD2/GPIO (io), 12 QSPI_DIN/EZPD/URXD1/GPIO (in), 13 QSPI_DOUT/EZPQ/UTXD1/GPIO (out), 14 QSPI_CLK/EZPCK/SCL/~{URTS1}/GPIO (io), 15 QSPI_CS0/SDA/~{UCTS1}/GPIO (out), 16 ~{RCON}/EZPCS, 17 JTAG_EN (in), 18 DTIN2/DTOUT2/PWM4/GPIO (io), 19 DTIN3/DTOUT3/PWM6/GPIO (io), 22 DTIN0/DTOUT0/PWM0/GPIO (io), 23 DTIN1/DTOUT1/PWM2/GPIO (io), 24 CLKMOD0 (in), 25 AN0/GPIO (io), 26 AN1/GPIO (io), 27 AN2/GPIO (io), 28 AN3/GPIO (io), 30 VRL (power), 31 VRH (power), 33 AN7/GPIO (io), 34 AN6/GPIO (io), 35 AN5/GPIO (io), 36 AN4/GPIO (io), 41 USB_DP (out), 42 USB_DM (out), 44 TCLK/PSTCLK/CLKOUT (out), 46 XTAL (out), 47 EXTAL (in), 49 TMS/~{BKPT} (in), 50 TDI/DSI (in), 51 TDO/DSO (out), 54 ~{TRST}DSCLK (in), 55 ALLPST (out), 56 ~{IRQ1}/SYNCA/USB_ALT_CLK/GPIO (io), 57 ~{IRQ4}/GPIO (io), 58 ~{IRQ7}/GPIO (io), 59 ~{RSTI} (in), 60 ~{RSTO} (out), 61 ~{UCTS1}/SYNCA/URXD2/GPIO (io), 62 UTXD1/GPIO (io), 63 URXD1/GPIO (io)
part B pins: 1 VDD (power), 10 VDD (power), 11 VSS (power), 20 VDD (power), 21 VSS (power), 29 VSSA (power), 32 VDDA (power), 37 VSTBY (power), 38 VSS (power), 39 VDD (power), 40 VSSUSB (power), 43 VDDUSB (power), 45 VSSPLL (power), 48 VDDPLL (power), 52 VDD (power), 53 VSS (power), 64 VSS (power)

## MCF52210CEP66
designator U?
MCF52210 ColdFire V2 Microcontroller, 2 UARTs, 32-Bit, 64KB Flash, 16KB SRAM, 66MHz, -40°C to 85°C, 64-Pin QFN; DatasheetVersion: rev2, Mar-2011; PackageVersion: revO; PackageReference: 1740-01; PackageDescription: 64-Pin Quad Flat No-Lead, 9 x 9 mm Body, 0.5 mm Pitch; Code_JEDEC: MO-220VMMD-3; ComponentLink1Description: Manufacturer URL; ComponentLink1URL: http://www.freescale.com/; ComponentLink2Description: Datasheet; ComponentLink2URL: http://cache.freescale.com/files/32bit/doc/data_sheet/MCF52211.pdf?fpsp=1&WT_TYPE=Data%20Sheets&WT_VENDOR=FREESCALE&WT_FILE_FORMAT=pdf&WT_ASSET=Documentation
footprint 1740-01_N (QFN, 64-Leads, Body 9x9mm, Pitch 0.5mm, Thermal Pad 6.1x6.1mm, IPC Medium Density)
footprint 1740-01_L (QFN, 64-Leads, Body 9x9mm, Pitch 0.5mm, Thermal Pad 6.1x6.1mm, IPC High Density)
footprint 1740-01_M (QFN, 64-Leads, Body 9x9mm, Pitch 0.5mm, Thermal Pad 6.1x6.1mm, IPC Low Density)
part A pins: 2 ~{URTS1}/SYNCB/UTXD2/GPIO (io), 3 TEST (in), 4 ~{UCTS0}/GPIO (io), 5 URXD0/RTC_EXTAL/GPIO (io), 6 UTXD0/RTC_XTAL/GPIO (io), 7 ~{URTS0}/GPIO (io), 8 SCL/USB_DMI/UTXD2/GPIO (io), 9 SDA/USB_DPI/URXD2/GPIO (io), 12 QSPI_DIN/EZPD/URXD1/GPIO (in), 13 QSPI_DOUT/EZPQ/UTXD1/GPIO (out), 14 QSPI_CLK/EZPCK/SCL/~{URTS1}/GPIO (io), 15 QSPI_CS0/SDA/~{UCTS1}/GPIO (out), 16 ~{RCON}/EZPCS, 17 JTAG_EN (in), 18 DTIN2/DTOUT2/PWM4/GPIO (io), 19 DTIN3/DTOUT3/PWM6/GPIO (io), 22 DTIN0/DTOUT0/PWM0/GPIO (io), 23 DTIN1/DTOUT1/PWM2/GPIO (io), 24 CLKMOD0 (in), 25 AN0/GPIO (io), 26 AN1/GPIO (io), 27 AN2/GPIO (io), 28 AN3/GPIO (io), 30 VRL (power), 31 VRH (power), 33 AN7/GPIO (io), 34 AN6/GPIO (io), 35 AN5/GPIO (io), 36 AN4/GPIO (io), 41 USB_DP (out), 42 USB_DM (out), 44 TCLK/PSTCLK/CLKOUT (out), 46 XTAL (out), 47 EXTAL (in), 49 TMS/~{BKPT} (in), 50 TDI/DSI (in), 51 TDO/DSO (out), 54 ~{TRST}DSCLK (in), 55 ALLPST (out), 56 ~{IRQ1}/SYNCA/USB_ALT_CLK/GPIO (io), 57 ~{IRQ4}/GPIO (io), 58 ~{IRQ7}/GPIO (io), 59 ~{RSTI} (in), 60 ~{RSTO} (out), 61 ~{UCTS1}/SYNCA/URXD2/GPIO (io), 62 UTXD1/GPIO (io), 63 URXD1/GPIO (io)
part B pins: 1 VDD (power), 10 VDD (power), 11 VSS (power), 20 VDD (power), 21 VSS (power), 29 VSSA (power), 32 VDDA (power), 37 VSTBY (power), 38 VSS (power), 39 VDD (power), 40 VSSUSB (power), 43 VDDUSB (power), 45 VSSPLL (power), 48 VDDPLL (power), 52 VDD (power), 53 VSS (power), 64 VSS (power), 65 Exposed Pad (power)